# Altium integrated library Lattice CPLD ispMACH.IntLib: 663 symbols (part 17 of 48)
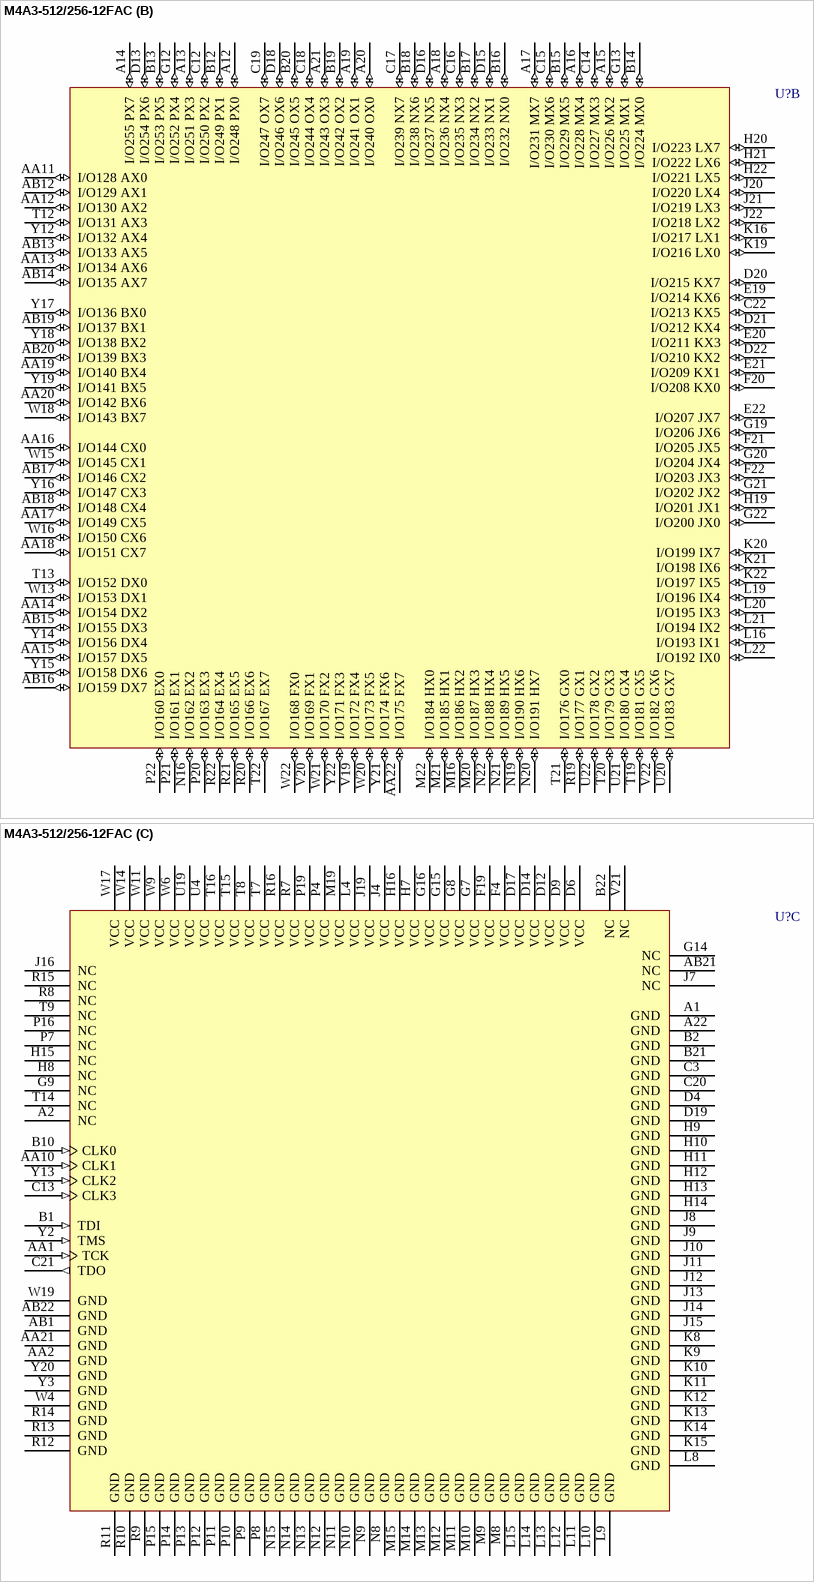
[diagram p322: symbol M4A3-512/256-12FAC]

## M4A3-512/256-12FAC
designator U?
High-Performance EE CMOS In-System Programmable Logic; Published: 17-Jul-2002; LatestRevisionDate: 13-Apr-2006; LatestRevisionNote: IPC-7351 Footprint Added.; DatasheetVersion: Feb-2001; PackageVersion: pkg_32, Aug-2005; PackageReference: fpBGA388; Publisher: Altium Limited; PackageDescription: 388-Ball Fine Pitch Ball Grid Array (fpBGA388); ComponentLink1Description: Manufacturer Link; ComponentLink1URL: http://www.latticesemi.com/products/mature/index.cfm; ComponentLink2Description: Datasheet; ComponentLink2URL: http://www.latticesemi.com/account/_download.cfm?AMID=1344
footprint fpBGA388 (BGA, 388-Leads, Body 23x23mm, Pitch 1mm)
3D model M4A3-fpBGA388 (388-Ball Fine Pitch Ball Grid Array (fpBGA388))
part A pins: A3 I/O10 B2 (io), A4 I/O8 B0 (io), A5 I/O22 C6 (io), A6 I/O17 C1 (io), A7 I/O30 D6 (io), A8 I/O27 D3 (io), A9 I/O6 A6 (io), A10 I/O5 A5 (io), A11 I/O0 A0 (io), AA3 I/O116 O4 (io), AA4 I/O113 O1 (io), AA5 I/O109 N5 (io), AA6 I/O108 N4 (io), AA7 I/O103 M7 (io), AA8 I/O100 M4 (io), AA9 I/O127 P7 (io), AB2 I/O117 O5 (io), AB3 I/O114 O2 (io), AB4 I/O112 O0 (io), AB5 I/O107 N3 (io), AB6 I/O105 N1 (io), AB7 I/O102 M6 (io), AB8 I/O97 M1 (io), AB9 I/O126 P6 (io), AB10 I/O124 P4 (io), AB11 I/O120 P0 (io), B3 I/O13 B5 (io), B4 I/O12 B4 (io), B5 I/O9 B1 (io), B6 I/O20 C4 (io), B7 I/O31 D7 (io), B8 I/O29 D5 (io), B9 I/O26 D2 (io), B11 I/O2 A2 (io), C1 I/O44 F4 (io), C2 I/O47 F7 (io), C4 I/O15 B7 (io), C5 I/O11 B3 (io), C6 I/O23 C7 (io), C7 I/O18 C2 (io), C8 I/O16 C0 (io), C9 I/O25 D1 (io), C10 I/O7 A7 (io), C11 I/O11 A1 (io), D1 I/O41 F1 (io), D2 I/O43 F3 (io), D3 I/O46 F6 (io), D5 I/O14 B6 (io), D7 I/O21 C5 (io), D8 I/O19 C3 (io), D10 I/O24 D0 (io), D11 I/O3 A3 (io), E1 I/O54 G6 (io), E2 I/O40 F0 (io), E3 I/O42 F2 (io), E4 I/O45 F5 (io), F1 I/O50 G2 (io), F2 I/O52 G4 (io), F3 I/O55 G7 (io), G1 I/O39 E7 (io), G2 I/O49 G1 (io), G3 I/O51 G3 (io), G4 I/O53 G5 (io), G10 I/O28 D4 (io), G11 I/O4 A4 (io), H1 I/O36 E4 (io), H2 I/O37 E5 (io), H3 I/O38 E6 (io), H4 I/O48 G0 (io), J1 I/O32 E0 (io), J2 I/O34 E2 (io), J3 I/O35 E3 (io), K1 I/O60 H4 (io), K2 I/O61 H5 (io), K3 I/O62 H6 (io), K4 I/O63 H7 (io), K7 I/O33 E1 (io), L1 I/O56 H0 (io), L2 I/O57 H1 (io), L3 I/O59 H3 (io), L7 I/O58 H2 (io), M1 I/O64 I0 (io), M2 I/O66 I2 (io), M3 I/O65 I1 (io), M4 I/O67 I3 (io), M7 I/O69 I5 (io), N1 I/O68 I4 (io), N2 I/O70 I6 (io), N3 I/O71 I7 (io), N4 I/O88 L0 (io), N7 I/O89 L1 (io), P1 I/O90 L2 (io), P2 I/O91 L3 (io), P3 I/O92 L4 (io), R1 I/O93 L5 (io), R2 I/O94 L6 (io), R3 I/O95 L7 (io), R4 I/O74 J2 (io), T1 I/O72 J0 (io), T2 I/O73 J1 (io), T3 I/O76 J4 (io), T4 I/O78 J6 (io), T10 I/O98 M2 (io), T11 I/O122 P2 (io), U1 I/O75 J3 (io), U2 I/O77 J5 (io), U3 I/O80 K0 (io), V1 I/O79 J7 (io), V2 I/O81 K1 (io), V3 I/O83 K3 (io), V4 I/O86 K6 (io), W1 I/O82 K2 (io), W2 I/O84 K4 (io), W3 I/O87 K7 (io), W5 I/O119 O7 (io), W7 I/O111 N7 (io), W8 I/O104 N0 (io), W10 I/O96 M0 (io), W12 I/O123 P3 (io), Y1 I/O85 K5 (io), Y4 I/O118 O6 (io), Y5 I/O115 O3 (io), Y6 I/O110 N6 (io), Y7 I/O106 N2 (io), Y8 I/O101 M5 (io), Y9 I/O99 M3 (io), Y10 I/O125 P5 (io), Y11 I/O121 P1 (io)
part B pins: A12 I/O248 PX0 (io), A13 I/O251 PX3 (io), A14 I/O255 PX7 (io), A15 I/O226 MX2 (io), A16 I/O228 MX4 (io), A17 I/O231 MX7 (io), A18 I/O236 NX4 (io), A19 I/O241 OX1 (io), A20 I/O240 OX0 (io), A21 I/O243 OX3 (io), AA11 I/O128 AX0 (io), AA12 I/O130 AX2 (io), AA13 I/O134 AX6 (io), AA14 I/O154 DX2 (io), AA15 I/O157 DX5 (io), AA16 I/O144 CX0 (io), AA17 I/O149 CX5 (io), AA18 I/O151 CX7 (io), AA19 I/O140 BX4 (io), AA20 I/O142 BX6 (io), AA22 I/O175 FX7 (io), AB12 I/O129 AX1 (io), AB13 I/O133 AX5 (io), AB14 I/O135 AX7 (io), AB15 I/O155 DX3 (io), AB16 I/O159 DX7 (io), AB17 I/O146 CX2 (io), AB18 I/O148 CX4 (io), AB19 I/O137 BX1 (io), AB20 I/O139 BX3 (io), B12 I/O249 PX1 (io), B13 I/O253 PX5 (io), B14 I/O224 MX0 (io), B15 I/O229 MX5 (io), B16 I/O232 NX0 (io), B17 I/O234 NX2 (io), B18 I/O238 NX6 (io), B19 I/O242 OX2 (io), B20 I/O245 OX5 (io), C12 I/O250 PX2 (io), C14 I/O227 MX3 (io), C15 I/O230 MX6 (io), C16 I/O235 NX3 (io), C17 I/O239 NX7 (io), C18 I/O244 OX4 (io), C19 I/O247 OX7 (io), C22 I/O213 KX5 (io), D13 I/O254 PX6 (io), D15 I/O233 NX1 (io), D16 I/O237 NX5 (io), D18 I/O246 OX6 (io), D20 I/O215 KX7 (io), D21 I/O212 KX4 (io), D22 I/O210 KX2 (io), E19 I/O214 KX6 (io), E20 I/O211 KX3 (io), E21 I/O209 KX1 (io), E22 I/O207 JX7 (io), F20 I/O208 KX0 (io), F21 I/O205 JX5 (io), F22 I/O203 JX3 (io), G12 I/O252 PX4 (io), G13 I/O225 MX1 (io), G19 I/O206 JX6 (io), G20 I/O204 JX4 (io), G21 I/O202 JX2 (io), G22 I/O200 JX0 (io), H19 I/O201 JX1 (io), H20 I/O223 LX7 (io), H21 I/O222 LX6 (io), H22 I/O221 LX5 (io), J20 I/O220 LX4 (io), J21 I/O219 LX3 (io), J22 I/O218 LX2 (io), K16 I/O217 LX1 (io), K19 I/O216 LX0 (io), K20 I/O199 IX7 (io), K21 I/O198 IX6 (io), K22 I/O197 IX5 (io), L16 I/O193 IX1 (io), L19 I/O196 IX4 (io), L20 I/O195 IX3 (io), L21 I/O194 IX2 (io), L22 I/O192 IX0 (io), M16 I/O186 HX2 (io), M20 I/O187 HX3 (io), M21 I/O185 HX1 (io), M22 I/O184 HX0 (io), N16 I/O162 EX2 (io), N19 I/O190 HX6 (io), N20 I/O191 HX7 (io), N21 I/O189 HX5 (io), N22 I/O188 HX4 (io), P20 I/O163 EX3 (io), P21 I/O161 EX1 (io), P22 I/O160 EX0 (io), R19 I/O177 GX1 (io), R20 I/O166 EX6 (io), R21 I/O165 EX5 (io), R22 I/O164 EX4 (io), T12 I/O131 AX3 (io), T13 I/O152 DX0 (io), T19 I/O181 GX5 (io), T20 I/O179 GX3 (io), T21 I/O176 GX0 (io), T22 I/O167 EX7 (io), U20 I/O183 GX7 (io), U21 I/O180 GX4 (io), U22 I/O178 GX2 (io), V19 I/O172 FX4 (io), V20 I/O169 FX1 (io), V22 I/O182 GX6 (io), W13 I/O153 DX1 (io), W15 I/O145 CX1 (io), W16 I/O150 CX6 (io), W18 I/O143 BX7 (io), W20 I/O173 FX5 (io), W21 I/O170 FX2 (io), W22 I/O168 FX0 (io), Y12 I/O132 AX4 (io), Y14 I/O156 DX4 (io), Y15 I/O158 DX6 (io), Y16 I/O147 CX3 (io), Y17 I/O136 BX0 (io), Y18 I/O138 BX2 (io), Y19 I/O141 BX5 (io), Y21 I/O174 FX6 (io), Y22 I/O171 FX3 (io)
part C pins: A1 GND (power), A2 NC, A22 GND (power), AA1 TCK (in), AA2 GND (power), AA10 CLK1 (in), AA21 GND (power), AB1 GND (power), AB21 NC, AB22 GND (power), B1 TDI (in), B2 GND (power), B10 CLK0 (in), B21 GND (power), B22 NC, C3 GND (power), C13 CLK3 (in), C20 GND (power), C21 TDO (out), D4 GND (power), D6 VCC (power), D9 VCC (power), D12 VCC (power), D14 VCC (power), D17 VCC (power), D19 GND (power), F4 VCC (power), F19 VCC (power), G7 VCC (power), G8 VCC (power), G9 NC, G14 NC, G15 VCC (power), G16 VCC (power), H7 VCC (power), H8 NC, H9 GND (power), H10 GND (power), H11 GND (power), H12 GND (power), H13 GND (power), H14 GND (power), H15 NC, H16 VCC (power), J4 VCC (power), J7 NC, J8 GND (power), J9 GND (power), J10 GND (power), J11 GND (power), J12 GND (power), J13 GND (power), J14 GND (power), J15 GND (power), J16 NC, J19 VCC (power), K8 GND (power), K9 GND (power), K10 GND (power), K11 GND (power), K12 GND (power), K13 GND (power), K14 GND (power), K15 GND (power), L4 VCC (power), L8 GND (power), L9 GND (power), L10 GND (power), L11 GND (power), L12 GND (power), L13 GND (power), L14 GND (power), L15 GND (power), M8 GND (power), M9 GND (power), M10 GND (power), M11 GND (power), M12 GND (power), M13 GND (power), M14 GND (power), M15 GND (power), M19 VCC (power), N8 GND (power), N9 GND (power), N10 GND (power), N11 GND (power), N12 GND (power), N13 GND (power), N14 GND (power), N15 GND (power), P4 VCC (power), P7 NC, P8 GND (power), P9 GND (power), P10 GND (power), P11 GND (power), P12 GND (power), P13 GND (power), P14 GND (power), P15 GND (power), P16 NC, P19 VCC (power), R7 VCC (power), R8 NC, R9 GND (power), R10 GND (power), R11 GND (power), R12 GND (power), R13 GND (power), R14 GND (power), R15 NC, R16 VCC (power), T7 VCC (power), T8 VCC (power), T9 NC, T14 NC, T15 VCC (power), T16 VCC (power), U4 VCC (power), U19 VCC (power), V21 NC, W4 GND (power), W6 VCC (power), W9 VCC (power), W11 VCC (power), W14 VCC (power), W17 VCC (power), W19 GND (power), Y2 TMS (in), Y3 GND (power), Y13 CLK2 (in), Y20 GND (power)

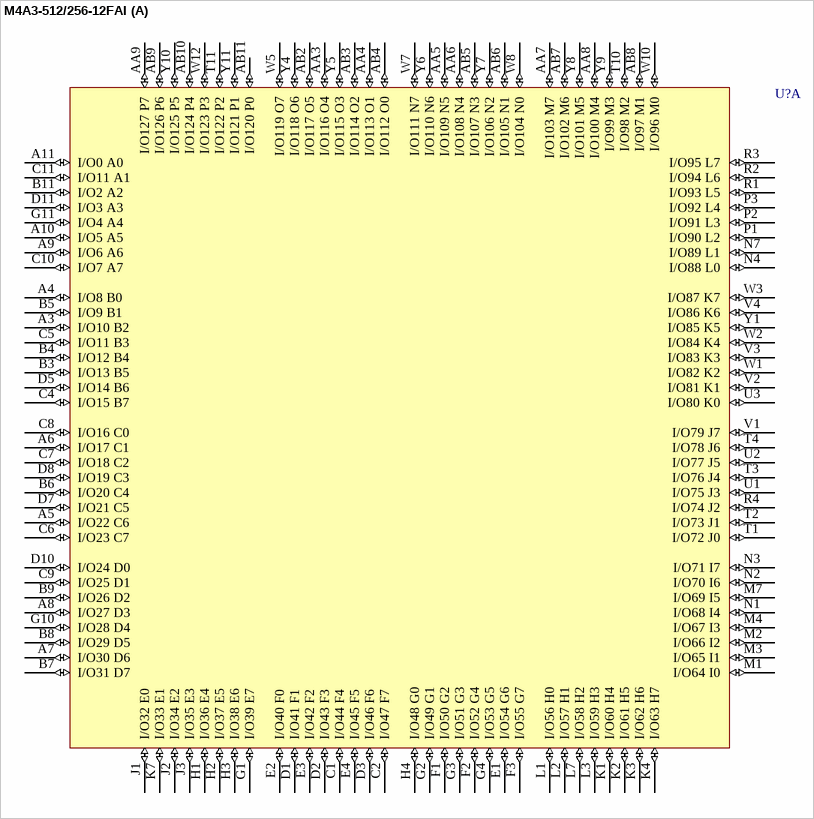
[diagram p104: symbol M4A3-512/256-12FAI]

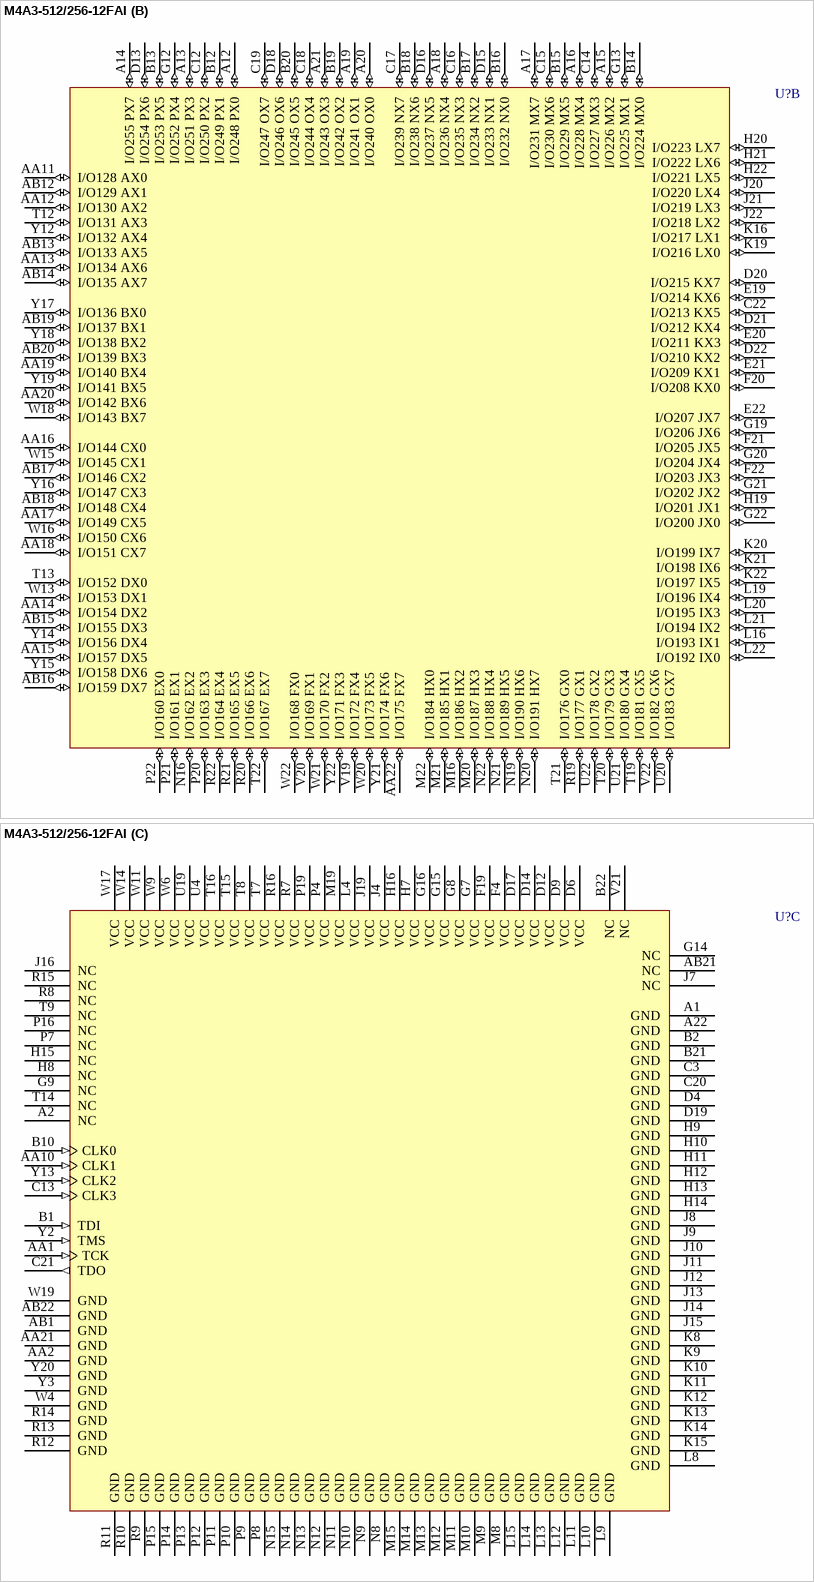
[diagram p105: symbol M4A3-512/256-12FAI]

## M4A3-512/256-12FAI
designator U?
High-Performance EE CMOS In-System Programmable Logic; Published: 17-Jul-2002; LatestRevisionDate: 13-Apr-2006; LatestRevisionNote: IPC-7351 Footprint Added.; DatasheetVersion: Feb-2001; PackageVersion: pkg_32, Aug-2005; PackageReference: fpBGA388; Publisher: Altium Limited; PackageDescription: 388-Ball Fine Pitch Ball Grid Array (fpBGA388); ComponentLink1Description: Manufacturer Link; ComponentLink1URL: http://www.latticesemi.com/products/mature/index.cfm; ComponentLink2Description: Datasheet; ComponentLink2URL: http://www.latticesemi.com/account/_download.cfm?AMID=1344
footprint fpBGA388 (BGA, 388-Leads, Body 23x23mm, Pitch 1mm)
3D model M4A3-fpBGA388 (388-Ball Fine Pitch Ball Grid Array (fpBGA388))
part A pins: A3 I/O10 B2 (io), A4 I/O8 B0 (io), A5 I/O22 C6 (io), A6 I/O17 C1 (io), A7 I/O30 D6 (io), A8 I/O27 D3 (io), A9 I/O6 A6 (io), A10 I/O5 A5 (io), A11 I/O0 A0 (io), AA3 I/O116 O4 (io), AA4 I/O113 O1 (io), AA5 I/O109 N5 (io), AA6 I/O108 N4 (io), AA7 I/O103 M7 (io), AA8 I/O100 M4 (io), AA9 I/O127 P7 (io), AB2 I/O117 O5 (io), AB3 I/O114 O2 (io), AB4 I/O112 O0 (io), AB5 I/O107 N3 (io), AB6 I/O105 N1 (io), AB7 I/O102 M6 (io), AB8 I/O97 M1 (io), AB9 I/O126 P6 (io), AB10 I/O124 P4 (io), AB11 I/O120 P0 (io), B3 I/O13 B5 (io), B4 I/O12 B4 (io), B5 I/O9 B1 (io), B6 I/O20 C4 (io), B7 I/O31 D7 (io), B8 I/O29 D5 (io), B9 I/O26 D2 (io), B11 I/O2 A2 (io), C1 I/O44 F4 (io), C2 I/O47 F7 (io), C4 I/O15 B7 (io), C5 I/O11 B3 (io), C6 I/O23 C7 (io), C7 I/O18 C2 (io), C8 I/O16 C0 (io), C9 I/O25 D1 (io), C10 I/O7 A7 (io), C11 I/O11 A1 (io), D1 I/O41 F1 (io), D2 I/O43 F3 (io), D3 I/O46 F6 (io), D5 I/O14 B6 (io), D7 I/O21 C5 (io), D8 I/O19 C3 (io), D10 I/O24 D0 (io), D11 I/O3 A3 (io), E1 I/O54 G6 (io), E2 I/O40 F0 (io), E3 I/O42 F2 (io), E4 I/O45 F5 (io), F1 I/O50 G2 (io), F2 I/O52 G4 (io), F3 I/O55 G7 (io), G1 I/O39 E7 (io), G2 I/O49 G1 (io), G3 I/O51 G3 (io), G4 I/O53 G5 (io), G10 I/O28 D4 (io), G11 I/O4 A4 (io), H1 I/O36 E4 (io), H2 I/O37 E5 (io), H3 I/O38 E6 (io), H4 I/O48 G0 (io), J1 I/O32 E0 (io), J2 I/O34 E2 (io), J3 I/O35 E3 (io), K1 I/O60 H4 (io), K2 I/O61 H5 (io), K3 I/O62 H6 (io), K4 I/O63 H7 (io), K7 I/O33 E1 (io), L1 I/O56 H0 (io), L2 I/O57 H1 (io), L3 I/O59 H3 (io), L7 I/O58 H2 (io), M1 I/O64 I0 (io), M2 I/O66 I2 (io), M3 I/O65 I1 (io), M4 I/O67 I3 (io), M7 I/O69 I5 (io), N1 I/O68 I4 (io), N2 I/O70 I6 (io), N3 I/O71 I7 (io), N4 I/O88 L0 (io), N7 I/O89 L1 (io), P1 I/O90 L2 (io), P2 I/O91 L3 (io), P3 I/O92 L4 (io), R1 I/O93 L5 (io), R2 I/O94 L6 (io), R3 I/O95 L7 (io), R4 I/O74 J2 (io), T1 I/O72 J0 (io), T2 I/O73 J1 (io), T3 I/O76 J4 (io), T4 I/O78 J6 (io), T10 I/O98 M2 (io), T11 I/O122 P2 (io), U1 I/O75 J3 (io), U2 I/O77 J5 (io), U3 I/O80 K0 (io), V1 I/O79 J7 (io), V2 I/O81 K1 (io), V3 I/O83 K3 (io), V4 I/O86 K6 (io), W1 I/O82 K2 (io), W2 I/O84 K4 (io), W3 I/O87 K7 (io), W5 I/O119 O7 (io), W7 I/O111 N7 (io), W8 I/O104 N0 (io), W10 I/O96 M0 (io), W12 I/O123 P3 (io), Y1 I/O85 K5 (io), Y4 I/O118 O6 (io), Y5 I/O115 O3 (io), Y6 I/O110 N6 (io), Y7 I/O106 N2 (io), Y8 I/O101 M5 (io), Y9 I/O99 M3 (io), Y10 I/O125 P5 (io), Y11 I/O121 P1 (io)
part B pins: A12 I/O248 PX0 (io), A13 I/O251 PX3 (io), A14 I/O255 PX7 (io), A15 I/O226 MX2 (io), A16 I/O228 MX4 (io), A17 I/O231 MX7 (io), A18 I/O236 NX4 (io), A19 I/O241 OX1 (io), A20 I/O240 OX0 (io), A21 I/O243 OX3 (io), AA11 I/O128 AX0 (io), AA12 I/O130 AX2 (io), AA13 I/O134 AX6 (io), AA14 I/O154 DX2 (io), AA15 I/O157 DX5 (io), AA16 I/O144 CX0 (io), AA17 I/O149 CX5 (io), AA18 I/O151 CX7 (io), AA19 I/O140 BX4 (io), AA20 I/O142 BX6 (io), AA22 I/O175 FX7 (io), AB12 I/O129 AX1 (io), AB13 I/O133 AX5 (io), AB14 I/O135 AX7 (io), AB15 I/O155 DX3 (io), AB16 I/O159 DX7 (io), AB17 I/O146 CX2 (io), AB18 I/O148 CX4 (io), AB19 I/O137 BX1 (io), AB20 I/O139 BX3 (io), B12 I/O249 PX1 (io), B13 I/O253 PX5 (io), B14 I/O224 MX0 (io), B15 I/O229 MX5 (io), B16 I/O232 NX0 (io), B17 I/O234 NX2 (io), B18 I/O238 NX6 (io), B19 I/O242 OX2 (io), B20 I/O245 OX5 (io), C12 I/O250 PX2 (io), C14 I/O227 MX3 (io), C15 I/O230 MX6 (io), C16 I/O235 NX3 (io), C17 I/O239 NX7 (io), C18 I/O244 OX4 (io), C19 I/O247 OX7 (io), C22 I/O213 KX5 (io), D13 I/O254 PX6 (io), D15 I/O233 NX1 (io), D16 I/O237 NX5 (io), D18 I/O246 OX6 (io), D20 I/O215 KX7 (io), D21 I/O212 KX4 (io), D22 I/O210 KX2 (io), E19 I/O214 KX6 (io), E20 I/O211 KX3 (io), E21 I/O209 KX1 (io), E22 I/O207 JX7 (io), F20 I/O208 KX0 (io), F21 I/O205 JX5 (io), F22 I/O203 JX3 (io), G12 I/O252 PX4 (io), G13 I/O225 MX1 (io), G19 I/O206 JX6 (io), G20 I/O204 JX4 (io), G21 I/O202 JX2 (io), G22 I/O200 JX0 (io), H19 I/O201 JX1 (io), H20 I/O223 LX7 (io), H21 I/O222 LX6 (io), H22 I/O221 LX5 (io), J20 I/O220 LX4 (io), J21 I/O219 LX3 (io), J22 I/O218 LX2 (io), K16 I/O217 LX1 (io), K19 I/O216 LX0 (io), K20 I/O199 IX7 (io), K21 I/O198 IX6 (io), K22 I/O197 IX5 (io), L16 I/O193 IX1 (io), L19 I/O196 IX4 (io), L20 I/O195 IX3 (io), L21 I/O194 IX2 (io), L22 I/O192 IX0 (io), M16 I/O186 HX2 (io), M20 I/O187 HX3 (io), M21 I/O185 HX1 (io), M22 I/O184 HX0 (io), N16 I/O162 EX2 (io), N19 I/O190 HX6 (io), N20 I/O191 HX7 (io), N21 I/O189 HX5 (io), N22 I/O188 HX4 (io), P20 I/O163 EX3 (io), P21 I/O161 EX1 (io), P22 I/O160 EX0 (io), R19 I/O177 GX1 (io), R20 I/O166 EX6 (io), R21 I/O165 EX5 (io), R22 I/O164 EX4 (io), T12 I/O131 AX3 (io), T13 I/O152 DX0 (io), T19 I/O181 GX5 (io), T20 I/O179 GX3 (io), T21 I/O176 GX0 (io), T22 I/O167 EX7 (io), U20 I/O183 GX7 (io), U21 I/O180 GX4 (io), U22 I/O178 GX2 (io), V19 I/O172 FX4 (io), V20 I/O169 FX1 (io), V22 I/O182 GX6 (io), W13 I/O153 DX1 (io), W15 I/O145 CX1 (io), W16 I/O150 CX6 (io), W18 I/O143 BX7 (io), W20 I/O173 FX5 (io), W21 I/O170 FX2 (io), W22 I/O168 FX0 (io), Y12 I/O132 AX4 (io), Y14 I/O156 DX4 (io), Y15 I/O158 DX6 (io), Y16 I/O147 CX3 (io), Y17 I/O136 BX0 (io), Y18 I/O138 BX2 (io), Y19 I/O141 BX5 (io), Y21 I/O174 FX6 (io), Y22 I/O171 FX3 (io)
part C pins: A1 GND (power), A2 NC, A22 GND (power), AA1 TCK (in), AA2 GND (power), AA10 CLK1 (in), AA21 GND (power), AB1 GND (power), AB21 NC, AB22 GND (power), B1 TDI (in), B2 GND (power), B10 CLK0 (in), B21 GND (power), B22 NC, C3 GND (power), C13 CLK3 (in), C20 GND (power), C21 TDO (out), D4 GND (power), D6 VCC (power), D9 VCC (power), D12 VCC (power), D14 VCC (power), D17 VCC (power), D19 GND (power), F4 VCC (power), F19 VCC (power), G7 VCC (power), G8 VCC (power), G9 NC, G14 NC, G15 VCC (power), G16 VCC (power), H7 VCC (power), H8 NC, H9 GND (power), H10 GND (power), H11 GND (power), H12 GND (power), H13 GND (power), H14 GND (power), H15 NC, H16 VCC (power), J4 VCC (power), J7 NC, J8 GND (power), J9 GND (power), J10 GND (power), J11 GND (power), J12 GND (power), J13 GND (power), J14 GND (power), J15 GND (power), J16 NC, J19 VCC (power), K8 GND (power), K9 GND (power), K10 GND (power), K11 GND (power), K12 GND (power), K13 GND (power), K14 GND (power), K15 GND (power), L4 VCC (power), L8 GND (power), L9 GND (power), L10 GND (power), L11 GND (power), L12 GND (power), L13 GND (power), L14 GND (power), L15 GND (power), M8 GND (power), M9 GND (power), M10 GND (power), M11 GND (power), M12 GND (power), M13 GND (power), M14 GND (power), M15 GND (power), M19 VCC (power), N8 GND (power), N9 GND (power), N10 GND (power), N11 GND (power), N12 GND (power), N13 GND (power), N14 GND (power), N15 GND (power), P4 VCC (power), P7 NC, P8 GND (power), P9 GND (power), P10 GND (power), P11 GND (power), P12 GND (power), P13 GND (power), P14 GND (power), P15 GND (power), P16 NC, P19 VCC (power), R7 VCC (power), R8 NC, R9 GND (power), R10 GND (power), R11 GND (power), R12 GND (power), R13 GND (power), R14 GND (power), R15 NC, R16 VCC (power), T7 VCC (power), T8 VCC (power), T9 NC, T14 NC, T15 VCC (power), T16 VCC (power), U4 VCC (power), U19 VCC (power), V21 NC, W4 GND (power), W6 VCC (power), W9 VCC (power), W11 VCC (power), W14 VCC (power), W17 VCC (power), W19 GND (power), Y2 TMS (in), Y3 GND (power), Y13 CLK2 (in), Y20 GND (power)

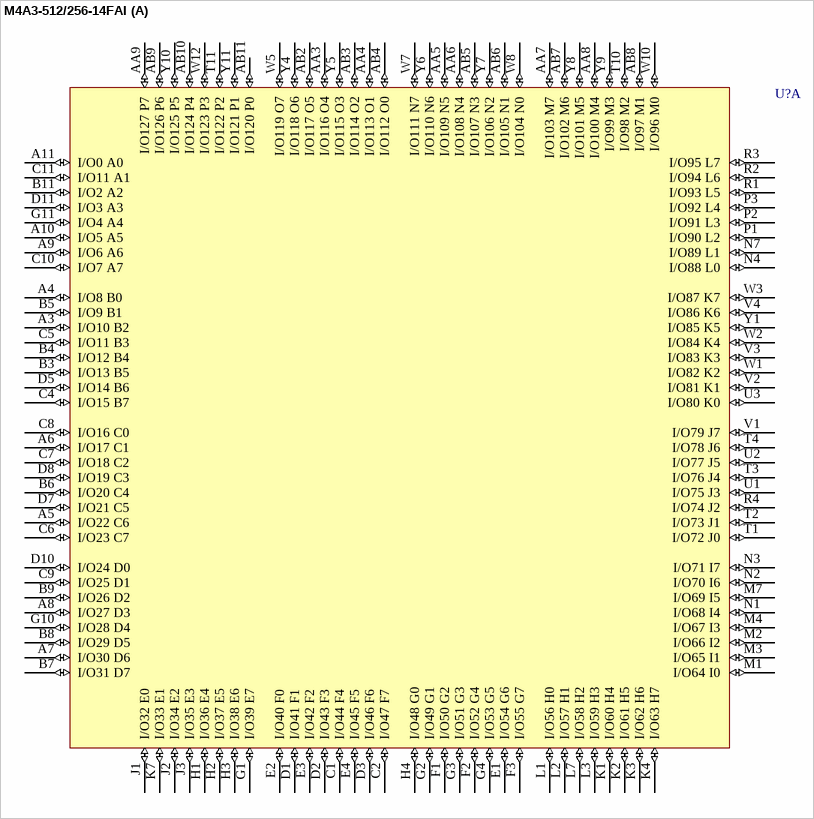
[diagram p106: symbol M4A3-512/256-14FAI]

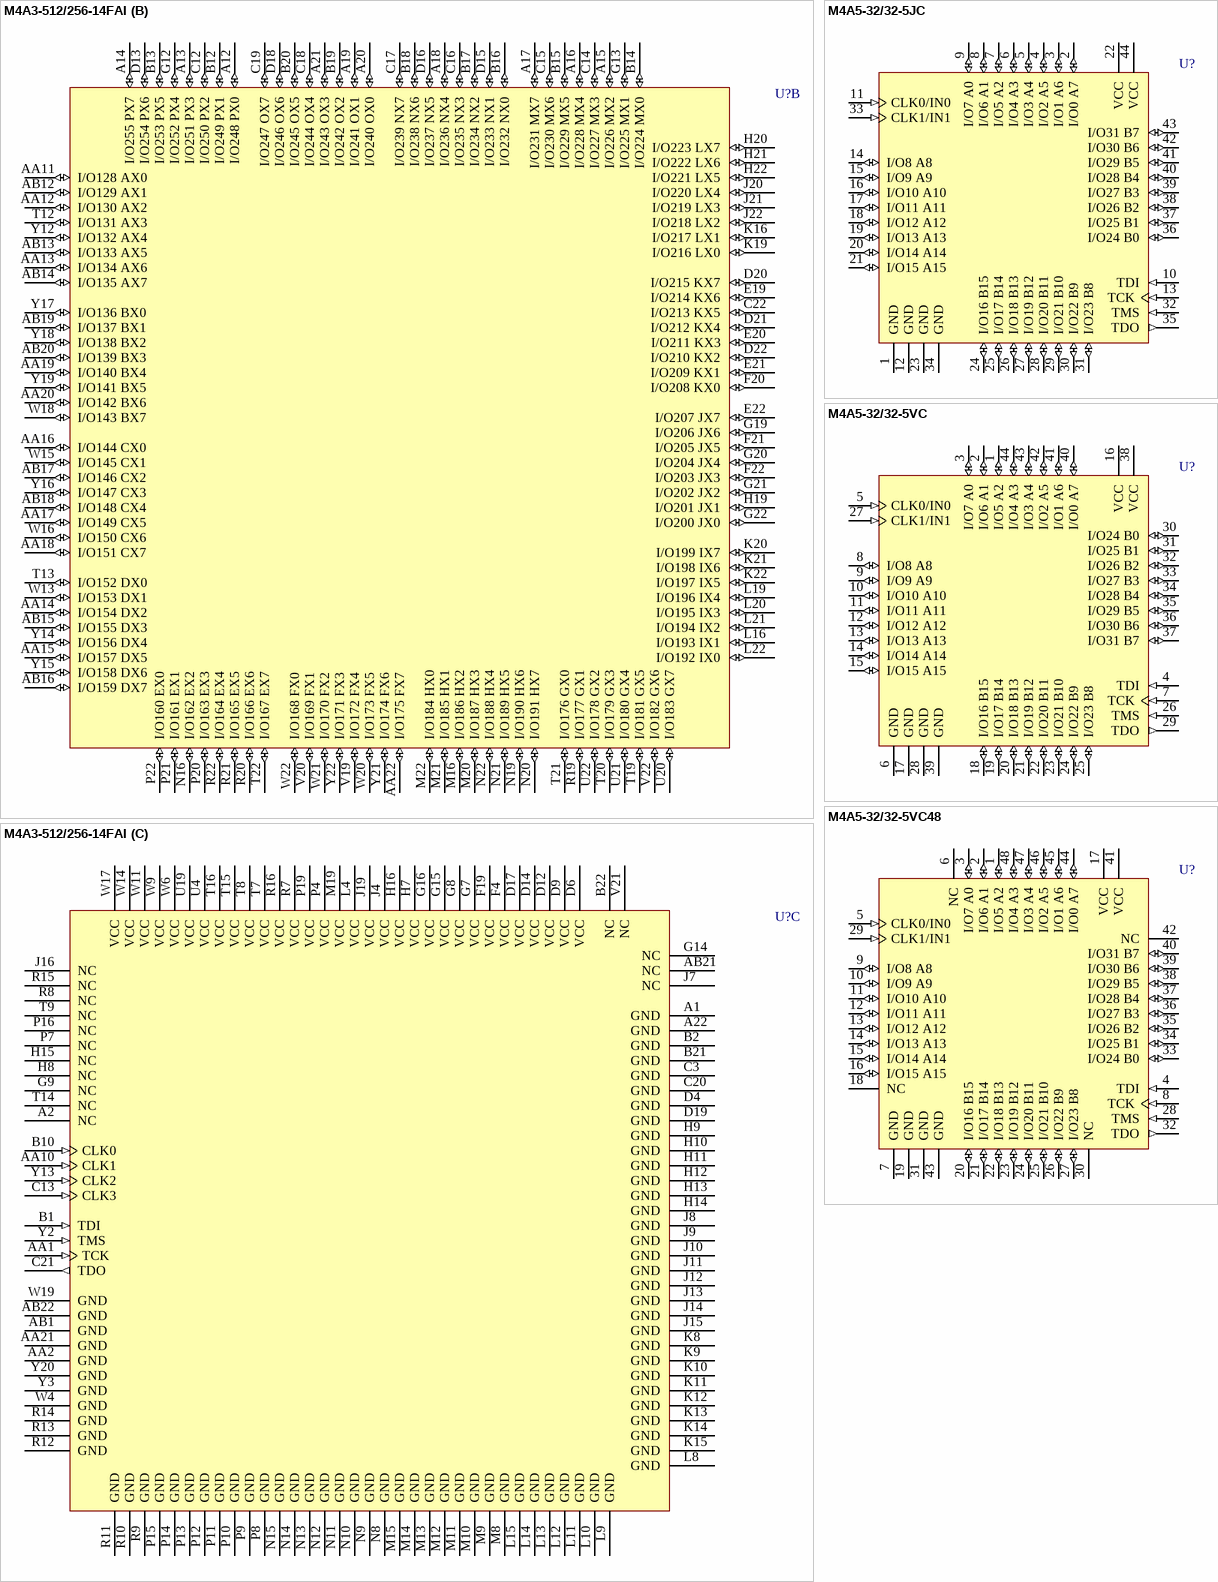
[diagram p107: symbols M4A3-512/256-14FAI to M4A5-32/32-5VC48]

## M4A3-512/256-14FAI
designator U?
High-Performance EE CMOS In-System Programmable Logic; Published: 17-Jul-2002; LatestRevisionDate: 13-Apr-2006; LatestRevisionNote: IPC-7351 Footprint Added.; DatasheetVersion: Feb-2001; PackageVersion: pkg_32, Aug-2005; PackageReference: fpBGA388; Publisher: Altium Limited; PackageDescription: 388-Ball Fine Pitch Ball Grid Array (fpBGA388); ComponentLink1Description: Manufacturer Link; ComponentLink1URL: http://www.latticesemi.com/products/mature/index.cfm; ComponentLink2Description: Datasheet; ComponentLink2URL: http://www.latticesemi.com/account/_download.cfm?AMID=1344
footprint fpBGA388 (BGA, 388-Leads, Body 23x23mm, Pitch 1mm)
3D model M4A3-fpBGA388 (388-Ball Fine Pitch Ball Grid Array (fpBGA388))
part A pins: A3 I/O10 B2 (io), A4 I/O8 B0 (io), A5 I/O22 C6 (io), A6 I/O17 C1 (io), A7 I/O30 D6 (io), A8 I/O27 D3 (io), A9 I/O6 A6 (io), A10 I/O5 A5 (io), A11 I/O0 A0 (io), AA3 I/O116 O4 (io), AA4 I/O113 O1 (io), AA5 I/O109 N5 (io), AA6 I/O108 N4 (io), AA7 I/O103 M7 (io), AA8 I/O100 M4 (io), AA9 I/O127 P7 (io), AB2 I/O117 O5 (io), AB3 I/O114 O2 (io), AB4 I/O112 O0 (io), AB5 I/O107 N3 (io), AB6 I/O105 N1 (io), AB7 I/O102 M6 (io), AB8 I/O97 M1 (io), AB9 I/O126 P6 (io), AB10 I/O124 P4 (io), AB11 I/O120 P0 (io), B3 I/O13 B5 (io), B4 I/O12 B4 (io), B5 I/O9 B1 (io), B6 I/O20 C4 (io), B7 I/O31 D7 (io), B8 I/O29 D5 (io), B9 I/O26 D2 (io), B11 I/O2 A2 (io), C1 I/O44 F4 (io), C2 I/O47 F7 (io), C4 I/O15 B7 (io), C5 I/O11 B3 (io), C6 I/O23 C7 (io), C7 I/O18 C2 (io), C8 I/O16 C0 (io), C9 I/O25 D1 (io), C10 I/O7 A7 (io), C11 I/O11 A1 (io), D1 I/O41 F1 (io), D2 I/O43 F3 (io), D3 I/O46 F6 (io), D5 I/O14 B6 (io), D7 I/O21 C5 (io), D8 I/O19 C3 (io), D10 I/O24 D0 (io), D11 I/O3 A3 (io), E1 I/O54 G6 (io), E2 I/O40 F0 (io), E3 I/O42 F2 (io), E4 I/O45 F5 (io), F1 I/O50 G2 (io), F2 I/O52 G4 (io), F3 I/O55 G7 (io), G1 I/O39 E7 (io), G2 I/O49 G1 (io), G3 I/O51 G3 (io), G4 I/O53 G5 (io), G10 I/O28 D4 (io), G11 I/O4 A4 (io), H1 I/O36 E4 (io), H2 I/O37 E5 (io), H3 I/O38 E6 (io), H4 I/O48 G0 (io), J1 I/O32 E0 (io), J2 I/O34 E2 (io), J3 I/O35 E3 (io), K1 I/O60 H4 (io), K2 I/O61 H5 (io), K3 I/O62 H6 (io), K4 I/O63 H7 (io), K7 I/O33 E1 (io), L1 I/O56 H0 (io), L2 I/O57 H1 (io), L3 I/O59 H3 (io), L7 I/O58 H2 (io), M1 I/O64 I0 (io), M2 I/O66 I2 (io), M3 I/O65 I1 (io), M4 I/O67 I3 (io), M7 I/O69 I5 (io), N1 I/O68 I4 (io), N2 I/O70 I6 (io), N3 I/O71 I7 (io), N4 I/O88 L0 (io), N7 I/O89 L1 (io), P1 I/O90 L2 (io), P2 I/O91 L3 (io), P3 I/O92 L4 (io), R1 I/O93 L5 (io), R2 I/O94 L6 (io), R3 I/O95 L7 (io), R4 I/O74 J2 (io), T1 I/O72 J0 (io), T2 I/O73 J1 (io), T3 I/O76 J4 (io), T4 I/O78 J6 (io), T10 I/O98 M2 (io), T11 I/O122 P2 (io), U1 I/O75 J3 (io), U2 I/O77 J5 (io), U3 I/O80 K0 (io), V1 I/O79 J7 (io), V2 I/O81 K1 (io), V3 I/O83 K3 (io), V4 I/O86 K6 (io), W1 I/O82 K2 (io), W2 I/O84 K4 (io), W3 I/O87 K7 (io), W5 I/O119 O7 (io), W7 I/O111 N7 (io), W8 I/O104 N0 (io), W10 I/O96 M0 (io), W12 I/O123 P3 (io), Y1 I/O85 K5 (io), Y4 I/O118 O6 (io), Y5 I/O115 O3 (io), Y6 I/O110 N6 (io), Y7 I/O106 N2 (io), Y8 I/O101 M5 (io), Y9 I/O99 M3 (io), Y10 I/O125 P5 (io), Y11 I/O121 P1 (io)
part B pins: A12 I/O248 PX0 (io), A13 I/O251 PX3 (io), A14 I/O255 PX7 (io), A15 I/O226 MX2 (io), A16 I/O228 MX4 (io), A17 I/O231 MX7 (io), A18 I/O236 NX4 (io), A19 I/O241 OX1 (io), A20 I/O240 OX0 (io), A21 I/O243 OX3 (io), AA11 I/O128 AX0 (io), AA12 I/O130 AX2 (io), AA13 I/O134 AX6 (io), AA14 I/O154 DX2 (io), AA15 I/O157 DX5 (io), AA16 I/O144 CX0 (io), AA17 I/O149 CX5 (io), AA18 I/O151 CX7 (io), AA19 I/O140 BX4 (io), AA20 I/O142 BX6 (io), AA22 I/O175 FX7 (io), AB12 I/O129 AX1 (io), AB13 I/O133 AX5 (io), AB14 I/O135 AX7 (io), AB15 I/O155 DX3 (io), AB16 I/O159 DX7 (io), AB17 I/O146 CX2 (io), AB18 I/O148 CX4 (io), AB19 I/O137 BX1 (io), AB20 I/O139 BX3 (io), B12 I/O249 PX1 (io), B13 I/O253 PX5 (io), B14 I/O224 MX0 (io), B15 I/O229 MX5 (io), B16 I/O232 NX0 (io), B17 I/O234 NX2 (io), B18 I/O238 NX6 (io), B19 I/O242 OX2 (io), B20 I/O245 OX5 (io), C12 I/O250 PX2 (io), C14 I/O227 MX3 (io), C15 I/O230 MX6 (io), C16 I/O235 NX3 (io), C17 I/O239 NX7 (io), C18 I/O244 OX4 (io), C19 I/O247 OX7 (io), C22 I/O213 KX5 (io), D13 I/O254 PX6 (io), D15 I/O233 NX1 (io), D16 I/O237 NX5 (io), D18 I/O246 OX6 (io), D20 I/O215 KX7 (io), D21 I/O212 KX4 (io), D22 I/O210 KX2 (io), E19 I/O214 KX6 (io), E20 I/O211 KX3 (io), E21 I/O209 KX1 (io), E22 I/O207 JX7 (io), F20 I/O208 KX0 (io), F21 I/O205 JX5 (io), F22 I/O203 JX3 (io), G12 I/O252 PX4 (io), G13 I/O225 MX1 (io), G19 I/O206 JX6 (io), G20 I/O204 JX4 (io), G21 I/O202 JX2 (io), G22 I/O200 JX0 (io), H19 I/O201 JX1 (io), H20 I/O223 LX7 (io), H21 I/O222 LX6 (io), H22 I/O221 LX5 (io), J20 I/O220 LX4 (io), J21 I/O219 LX3 (io), J22 I/O218 LX2 (io), K16 I/O217 LX1 (io), K19 I/O216 LX0 (io), K20 I/O199 IX7 (io), K21 I/O198 IX6 (io), K22 I/O197 IX5 (io), L16 I/O193 IX1 (io), L19 I/O196 IX4 (io), L20 I/O195 IX3 (io), L21 I/O194 IX2 (io), L22 I/O192 IX0 (io), M16 I/O186 HX2 (io), M20 I/O187 HX3 (io), M21 I/O185 HX1 (io), M22 I/O184 HX0 (io), N16 I/O162 EX2 (io), N19 I/O190 HX6 (io), N20 I/O191 HX7 (io), N21 I/O189 HX5 (io), N22 I/O188 HX4 (io), P20 I/O163 EX3 (io), P21 I/O161 EX1 (io), P22 I/O160 EX0 (io), R19 I/O177 GX1 (io), R20 I/O166 EX6 (io), R21 I/O165 EX5 (io), R22 I/O164 EX4 (io), T12 I/O131 AX3 (io), T13 I/O152 DX0 (io), T19 I/O181 GX5 (io), T20 I/O179 GX3 (io), T21 I/O176 GX0 (io), T22 I/O167 EX7 (io), U20 I/O183 GX7 (io), U21 I/O180 GX4 (io), U22 I/O178 GX2 (io), V19 I/O172 FX4 (io), V20 I/O169 FX1 (io), V22 I/O182 GX6 (io), W13 I/O153 DX1 (io), W15 I/O145 CX1 (io), W16 I/O150 CX6 (io), W18 I/O143 BX7 (io), W20 I/O173 FX5 (io), W21 I/O170 FX2 (io), W22 I/O168 FX0 (io), Y12 I/O132 AX4 (io), Y14 I/O156 DX4 (io), Y15 I/O158 DX6 (io), Y16 I/O147 CX3 (io), Y17 I/O136 BX0 (io), Y18 I/O138 BX2 (io), Y19 I/O141 BX5 (io), Y21 I/O174 FX6 (io), Y22 I/O171 FX3 (io)
part C pins: A1 GND (power), A2 NC, A22 GND (power), AA1 TCK (in), AA2 GND (power), AA10 CLK1 (in), AA21 GND (power), AB1 GND (power), AB21 NC, AB22 GND (power), B1 TDI (in), B2 GND (power), B10 CLK0 (in), B21 GND (power), B22 NC, C3 GND (power), C13 CLK3 (in), C20 GND (power), C21 TDO (out), D4 GND (power), D6 VCC (power), D9 VCC (power), D12 VCC (power), D14 VCC (power), D17 VCC (power), D19 GND (power), F4 VCC (power), F19 VCC (power), G7 VCC (power), G8 VCC (power), G9 NC, G14 NC, G15 VCC (power), G16 VCC (power), H7 VCC (power), H8 NC, H9 GND (power), H10 GND (power), H11 GND (power), H12 GND (power), H13 GND (power), H14 GND (power), H15 NC, H16 VCC (power), J4 VCC (power), J7 NC, J8 GND (power), J9 GND (power), J10 GND (power), J11 GND (power), J12 GND (power), J13 GND (power), J14 GND (power), J15 GND (power), J16 NC, J19 VCC (power), K8 GND (power), K9 GND (power), K10 GND (power), K11 GND (power), K12 GND (power), K13 GND (power), K14 GND (power), K15 GND (power), L4 VCC (power), L8 GND (power), L9 GND (power), L10 GND (power), L11 GND (power), L12 GND (power), L13 GND (power), L14 GND (power), L15 GND (power), M8 GND (power), M9 GND (power), M10 GND (power), M11 GND (power), M12 GND (power), M13 GND (power), M14 GND (power), M15 GND (power), M19 VCC (power), N8 GND (power), N9 GND (power), N10 GND (power), N11 GND (power), N12 GND (power), N13 GND (power), N14 GND (power), N15 GND (power), P4 VCC (power), P7 NC, P8 GND (power), P9 GND (power), P10 GND (power), P11 GND (power), P12 GND (power), P13 GND (power), P14 GND (power), P15 GND (power), P16 NC, P19 VCC (power), R7 VCC (power), R8 NC, R9 GND (power), R10 GND (power), R11 GND (power), R12 GND (power), R13 GND (power), R14 GND (power), R15 NC, R16 VCC (power), T7 VCC (power), T8 VCC (power), T9 NC, T14 NC, T15 VCC (power), T16 VCC (power), U4 VCC (power), U19 VCC (power), V21 NC, W4 GND (power), W6 VCC (power), W9 VCC (power), W11 VCC (power), W14 VCC (power), W17 VCC (power), W19 GND (power), Y2 TMS (in), Y3 GND (power), Y13 CLK2 (in), Y20 GND (power)

## M4A5-32/32-5JC
designator U?
High-Performance EE CMOS In-System Programmable Logic; Published: 17-Jul-2002; LatestRevisionDate: 13-Apr-2006; LatestRevisionNote: IPC-7351 Footprint Added.; DatasheetVersion: Feb-2001; PackageVersion: pkg_32, Aug-2005; PackageReference: PLCC44; Publisher: Altium Limited; PackageDescription: 44-Pin Leaded Chip Carrier 1.27 mm Pitch; Code_IPC: PLCC-44; ComponentLink1Description: Manufacturer Link; ComponentLink1URL: http://www.latticesemi.com/products/mature/index.cfm; ComponentLink2Description: Datasheet; ComponentLink2URL: http://www.latticesemi.com/account/_download.cfm?AMID=1344
footprint PLCC44_N (Leaded Chip Carrier, 44-Leads, Body 16.6x16.6mm, Pitch 1.27mm, IPC Medium Density)
footprint PLCC44_L (Leaded Chip Carrier, 44-Leads, Body 16.6x16.6mm, Pitch 1.27mm, IPC High Density)
footprint PLCC44_M (Leaded Chip Carrier, 44-Leads, Body 16.6x16.6mm, Pitch 1.27mm, IPC Low Density)
3D model M4A5-PLCC44 (44-Pin Leaded Chip Carrier 1.27 mm Pitch)
pins: 1 GND (power), 2 I/O0 A7 (io), 3 I/O1 A6 (io), 4 I/O2 A5 (io), 5 I/O3 A4 (io), 6 I/O4 A3 (io), 7 I/O5 A2 (io), 8 I/O6 A1 (io), 9 I/O7 A0 (io), 10 TDI (in), 11 CLK0/IN0 (in), 12 GND (power), 13 TCK (in), 14 I/O8 A8 (io), 15 I/O9 A9 (io), 16 I/O10 A10 (io), 17 I/O11 A11 (io), 18 I/O12 A12 (io), 19 I/O13 A13 (io), 20 I/O14 A14 (io), 21 I/O15 A15 (io), 22 VCC (power), 23 GND (power), 24 I/O16 B15 (io), 25 I/O17 B14 (io), 26 I/O18 B13 (io), 27 I/O19 B12 (io), 28 I/O20 B11 (io), 29 I/O21 B10 (io), 30 I/O22 B9 (io), 31 I/O23 B8 (io), 32 TMS (in), 33 CLK1/IN1 (in), 34 GND (power), 35 TDO (out), 36 I/O24 B0 (io), 37 I/O25 B1 (io), 38 I/O26 B2 (io), 39 I/O27 B3 (io), 40 I/O28 B4 (io), 41 I/O29 B5 (io), 42 I/O30 B6 (io), 43 I/O31 B7 (io), 44 VCC (power)

## M4A5-32/32-5VC
designator U?
High-Performance EE CMOS In-System Programmable Logic; Published: 17-Jul-2002; LatestRevisionDate: 13-Apr-2006; LatestRevisionNote: IPC-7351 Footprint Added.; DatasheetVersion: Feb-2001; PackageVersion: pkg_32, Aug-2005; PackageReference: TQFP44; Publisher: Altium Limited; PackageDescription: 44-Pin Thin Quad Flat Pack 0.8 mm Pitch; ComponentLink1Description: Manufacturer Link; ComponentLink1URL: http://www.latticesemi.com/products/mature/index.cfm; ComponentLink2Description: Datasheet; ComponentLink2URL: http://www.latticesemi.com/account/_download.cfm?AMID=1344
footprint TQFP44_N (Thin QFP, 44-Leads, Body 10x10mm, Pitch 0.8mm, IPC Medium Density)
footprint TQFP44_L (Thin QFP, 44-Leads, Body 10x10mm, Pitch 0.8mm, IPC High Density)
footprint TQFP44_M (Thin QFP, 44-Leads, Body 10x10mm, Pitch 0.8mm, IPC Low Density)
3D model M4A5-TQFP44 (44-Pin Thin Quad Flat Pack 0.8 mm Pitch)
pins: 1 I/O5 A2 (io), 2 I/O6 A1 (io), 3 I/O7 A0 (io), 4 TDI (in), 5 CLK0/IN0 (in), 6 GND (power), 7 TCK (in), 8 I/O8 A8 (io), 9 I/O9 A9 (io), 10 I/O10 A10 (io), 11 I/O11 A11 (io), 12 I/O12 A12 (io), 13 I/O13 A13 (io), 14 I/O14 A14 (io), 15 I/O15 A15 (io), 16 VCC (power), 17 GND (power), 18 I/O16 B15 (io), 19 I/O17 B14 (io), 20 I/O18 B13 (io), 21 I/O19 B12 (io), 22 I/O20 B11 (io), 23 I/O21 B10 (io), 24 I/O22 B9 (io), 25 I/O23 B8 (io), 26 TMS (in), 27 CLK1/IN1 (in), 28 GND (power), 29 TDO (out), 30 I/O24 B0 (io), 31 I/O25 B1 (io), 32 I/O26 B2 (io), 33 I/O27 B3 (io), 34 I/O28 B4 (io), 35 I/O29 B5 (io), 36 I/O30 B6 (io), 37 I/O31 B7 (io), 38 VCC (power), 39 GND (power), 40 I/O0 A7 (io), 41 I/O1 A6 (io), 42 I/O2 A5 (io), 43 I/O3 A4 (io), 44 I/O4 A3 (io)

## M4A5-32/32-5VC48
designator U?
High-Performance EE CMOS In-System Programmable Logic; Published: 17-Jul-2002; LatestRevisionDate: 13-Apr-2006; LatestRevisionNote: IPC-7351 Footprint Added.; DatasheetVersion: Feb-2001; PackageVersion: pkg_32, Aug-2005; PackageReference: TQFP48; Publisher: Altium Limited; PackageDescription: 48-Pin Thin Quad Flat Pack 0.5 mm Pitch; ComponentLink1Description: Manufacturer Link; ComponentLink1URL: http://www.latticesemi.com/products/mature/index.cfm; ComponentLink2Description: Datasheet; ComponentLink2URL: http://www.latticesemi.com/account/_download.cfm?AMID=1344
footprint TQFP48_N (Thin QFP, 48-Leads, Body 7x7mm, Pitch 0.5mm, IPC Medium Density)
footprint TQFP48_L (Thin QFP, 48-Leads, Body 7x7mm, Pitch 0.5mm, IPC High Density)
footprint TQFP48_M (Thin QFP, 48-Leads, Body 7x7mm, Pitch 0.5mm, IPC Low Density)
3D model M4A5-TQFP48 (48-Pin Thin Quad Flat Pack 0.5 mm Pitch)
pins: 1 I/O5 A2 (io), 2 I/O6 A1 (io), 3 I/O7 A0 (io), 4 TDI (in), 5 CLK0/IN0 (in), 6 NC, 7 GND (power), 8 TCK (in), 9 I/O8 A8 (io), 10 I/O9 A9 (io), 11 I/O10 A10 (io), 12 I/O11 A11 (io), 13 I/O12 A12 (io), 14 I/O13 A13 (io), 15 I/O14 A14 (io), 16 I/O15 A15 (io), 17 VCC (power), 18 NC, 19 GND (power), 20 I/O16 B15 (io), 21 I/O17 B14 (io), 22 I/O18 B13 (io), 23 I/O19 B12 (io), 24 I/O20 B11 (io), 25 I/O21 B10 (io), 26 I/O22 B9 (io), 27 I/O23 B8 (io), 28 TMS (in), 29 CLK1/IN1 (in), 30 NC, 31 GND (power), 32 TDO (out), 33 I/O24 B0 (io), 34 I/O25 B1 (io), 35 I/O26 B2 (io), 36 I/O27 B3 (io), 37 I/O28 B4 (io), 38 I/O29 B5 (io), 39 I/O30 B6 (io), 40 I/O31 B7 (io), 41 VCC (power), 42 NC, 43 GND (power), 44 I/O0 A7 (io), 45 I/O1 A6 (io), 46 I/O2 A5 (io), 47 I/O3 A4 (io), 48 I/O4 A3 (io)

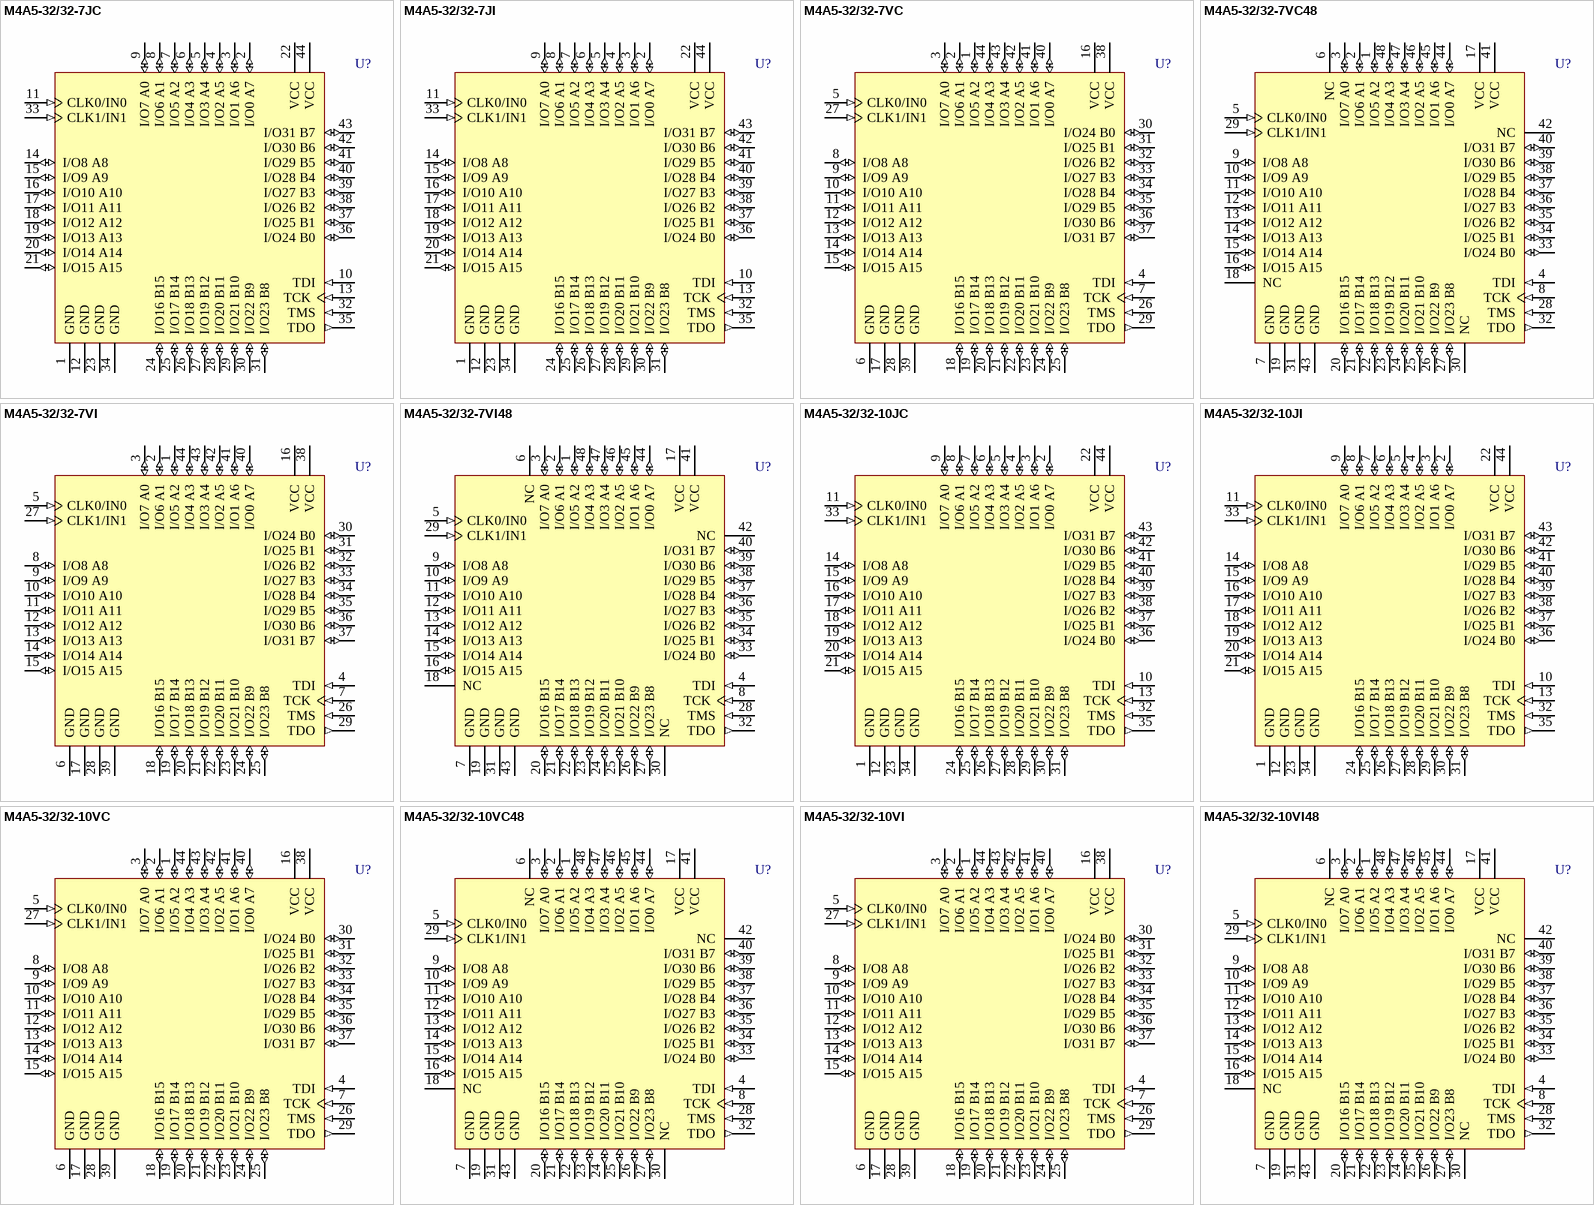
[diagram p108: symbols M4A5-32/32-7JC to M4A5-32/32-10VI48]

## M4A5-32/32-7JC
designator U?
High-Performance EE CMOS In-System Programmable Logic; Published: 17-Jul-2002; LatestRevisionDate: 13-Apr-2006; LatestRevisionNote: IPC-7351 Footprint Added.; DatasheetVersion: Feb-2001; PackageVersion: pkg_32, Aug-2005; PackageReference: PLCC44; Publisher: Altium Limited; PackageDescription: 44-Pin Leaded Chip Carrier 1.27 mm Pitch; Code_IPC: PLCC-44; ComponentLink1Description: Manufacturer Link; ComponentLink1URL: http://www.latticesemi.com/products/mature/index.cfm; ComponentLink2Description: Datasheet; ComponentLink2URL: http://www.latticesemi.com/account/_download.cfm?AMID=1344
footprint PLCC44_N (Leaded Chip Carrier, 44-Leads, Body 16.6x16.6mm, Pitch 1.27mm, IPC Medium Density)
footprint PLCC44_L (Leaded Chip Carrier, 44-Leads, Body 16.6x16.6mm, Pitch 1.27mm, IPC High Density)
footprint PLCC44_M (Leaded Chip Carrier, 44-Leads, Body 16.6x16.6mm, Pitch 1.27mm, IPC Low Density)
3D model M4A5-PLCC44 (44-Pin Leaded Chip Carrier 1.27 mm Pitch)
pins: 1 GND (power), 2 I/O0 A7 (io), 3 I/O1 A6 (io), 4 I/O2 A5 (io), 5 I/O3 A4 (io), 6 I/O4 A3 (io), 7 I/O5 A2 (io), 8 I/O6 A1 (io), 9 I/O7 A0 (io), 10 TDI (in), 11 CLK0/IN0 (in), 12 GND (power), 13 TCK (in), 14 I/O8 A8 (io), 15 I/O9 A9 (io), 16 I/O10 A10 (io), 17 I/O11 A11 (io), 18 I/O12 A12 (io), 19 I/O13 A13 (io), 20 I/O14 A14 (io), 21 I/O15 A15 (io), 22 VCC (power), 23 GND (power), 24 I/O16 B15 (io), 25 I/O17 B14 (io), 26 I/O18 B13 (io), 27 I/O19 B12 (io), 28 I/O20 B11 (io), 29 I/O21 B10 (io), 30 I/O22 B9 (io), 31 I/O23 B8 (io), 32 TMS (in), 33 CLK1/IN1 (in), 34 GND (power), 35 TDO (out), 36 I/O24 B0 (io), 37 I/O25 B1 (io), 38 I/O26 B2 (io), 39 I/O27 B3 (io), 40 I/O28 B4 (io), 41 I/O29 B5 (io), 42 I/O30 B6 (io), 43 I/O31 B7 (io), 44 VCC (power)

## M4A5-32/32-7JI
designator U?
High-Performance EE CMOS In-System Programmable Logic; Published: 17-Jul-2002; LatestRevisionDate: 13-Apr-2006; LatestRevisionNote: IPC-7351 Footprint Added.; DatasheetVersion: Feb-2001; PackageVersion: pkg_32, Aug-2005; PackageReference: PLCC44; Publisher: Altium Limited; PackageDescription: 44-Pin Leaded Chip Carrier 1.27 mm Pitch; Code_IPC: PLCC-44; ComponentLink1Description: Manufacturer Link; ComponentLink1URL: http://www.latticesemi.com/products/mature/index.cfm; ComponentLink2Description: Datasheet; ComponentLink2URL: http://www.latticesemi.com/account/_download.cfm?AMID=1344
footprint PLCC44_N (Leaded Chip Carrier, 44-Leads, Body 16.6x16.6mm, Pitch 1.27mm, IPC Medium Density)
footprint PLCC44_L (Leaded Chip Carrier, 44-Leads, Body 16.6x16.6mm, Pitch 1.27mm, IPC High Density)
footprint PLCC44_M (Leaded Chip Carrier, 44-Leads, Body 16.6x16.6mm, Pitch 1.27mm, IPC Low Density)
3D model M4A5-PLCC44 (44-Pin Leaded Chip Carrier 1.27 mm Pitch)
pins: 1 GND (power), 2 I/O0 A7 (io), 3 I/O1 A6 (io), 4 I/O2 A5 (io), 5 I/O3 A4 (io), 6 I/O4 A3 (io), 7 I/O5 A2 (io), 8 I/O6 A1 (io), 9 I/O7 A0 (io), 10 TDI (in), 11 CLK0/IN0 (in), 12 GND (power), 13 TCK (in), 14 I/O8 A8 (io), 15 I/O9 A9 (io), 16 I/O10 A10 (io), 17 I/O11 A11 (io), 18 I/O12 A12 (io), 19 I/O13 A13 (io), 20 I/O14 A14 (io), 21 I/O15 A15 (io), 22 VCC (power), 23 GND (power), 24 I/O16 B15 (io), 25 I/O17 B14 (io), 26 I/O18 B13 (io), 27 I/O19 B12 (io), 28 I/O20 B11 (io), 29 I/O21 B10 (io), 30 I/O22 B9 (io), 31 I/O23 B8 (io), 32 TMS (in), 33 CLK1/IN1 (in), 34 GND (power), 35 TDO (out), 36 I/O24 B0 (io), 37 I/O25 B1 (io), 38 I/O26 B2 (io), 39 I/O27 B3 (io), 40 I/O28 B4 (io), 41 I/O29 B5 (io), 42 I/O30 B6 (io), 43 I/O31 B7 (io), 44 VCC (power)

## M4A5-32/32-7VC
designator U?
High-Performance EE CMOS In-System Programmable Logic; Published: 17-Jul-2002; LatestRevisionDate: 13-Apr-2006; LatestRevisionNote: IPC-7351 Footprint Added.; DatasheetVersion: Feb-2001; PackageVersion: pkg_32, Aug-2005; PackageReference: TQFP44; Publisher: Altium Limited; PackageDescription: 44-Pin Thin Quad Flat Pack 0.8 mm Pitch; ComponentLink1Description: Manufacturer Link; ComponentLink1URL: http://www.latticesemi.com/products/mature/index.cfm; ComponentLink2Description: Datasheet; ComponentLink2URL: http://www.latticesemi.com/account/_download.cfm?AMID=1344
footprint TQFP44_N (Thin QFP, 44-Leads, Body 10x10mm, Pitch 0.8mm, IPC Medium Density)
footprint TQFP44_L (Thin QFP, 44-Leads, Body 10x10mm, Pitch 0.8mm, IPC High Density)
footprint TQFP44_M (Thin QFP, 44-Leads, Body 10x10mm, Pitch 0.8mm, IPC Low Density)
3D model M4A5-TQFP44 (44-Pin Thin Quad Flat Pack 0.8 mm Pitch)
pins: 1 I/O5 A2 (io), 2 I/O6 A1 (io), 3 I/O7 A0 (io), 4 TDI (in), 5 CLK0/IN0 (in), 6 GND (power), 7 TCK (in), 8 I/O8 A8 (io), 9 I/O9 A9 (io), 10 I/O10 A10 (io), 11 I/O11 A11 (io), 12 I/O12 A12 (io), 13 I/O13 A13 (io), 14 I/O14 A14 (io), 15 I/O15 A15 (io), 16 VCC (power), 17 GND (power), 18 I/O16 B15 (io), 19 I/O17 B14 (io), 20 I/O18 B13 (io), 21 I/O19 B12 (io), 22 I/O20 B11 (io), 23 I/O21 B10 (io), 24 I/O22 B9 (io), 25 I/O23 B8 (io), 26 TMS (in), 27 CLK1/IN1 (in), 28 GND (power), 29 TDO (out), 30 I/O24 B0 (io), 31 I/O25 B1 (io), 32 I/O26 B2 (io), 33 I/O27 B3 (io), 34 I/O28 B4 (io), 35 I/O29 B5 (io), 36 I/O30 B6 (io), 37 I/O31 B7 (io), 38 VCC (power), 39 GND (power), 40 I/O0 A7 (io), 41 I/O1 A6 (io), 42 I/O2 A5 (io), 43 I/O3 A4 (io), 44 I/O4 A3 (io)

## M4A5-32/32-7VC48
designator U?
High-Performance EE CMOS In-System Programmable Logic; Published: 17-Jul-2002; LatestRevisionDate: 13-Apr-2006; LatestRevisionNote: IPC-7351 Footprint Added.; DatasheetVersion: Feb-2001; PackageVersion: pkg_32, Aug-2005; PackageReference: TQFP48; Publisher: Altium Limited; PackageDescription: 48-Pin Thin Quad Flat Pack 0.5 mm Pitch; ComponentLink1Description: Manufacturer Link; ComponentLink1URL: http://www.latticesemi.com/products/mature/index.cfm; ComponentLink2Description: Datasheet; ComponentLink2URL: http://www.latticesemi.com/account/_download.cfm?AMID=1344
footprint TQFP48_N (Thin QFP, 48-Leads, Body 7x7mm, Pitch 0.5mm, IPC Medium Density)
footprint TQFP48_L (Thin QFP, 48-Leads, Body 7x7mm, Pitch 0.5mm, IPC High Density)
footprint TQFP48_M (Thin QFP, 48-Leads, Body 7x7mm, Pitch 0.5mm, IPC Low Density)
3D model M4A5-TQFP48 (48-Pin Thin Quad Flat Pack 0.5 mm Pitch)
pins: 1 I/O5 A2 (io), 2 I/O6 A1 (io), 3 I/O7 A0 (io), 4 TDI (in), 5 CLK0/IN0 (in), 6 NC, 7 GND (power), 8 TCK (in), 9 I/O8 A8 (io), 10 I/O9 A9 (io), 11 I/O10 A10 (io), 12 I/O11 A11 (io), 13 I/O12 A12 (io), 14 I/O13 A13 (io), 15 I/O14 A14 (io), 16 I/O15 A15 (io), 17 VCC (power), 18 NC, 19 GND (power), 20 I/O16 B15 (io), 21 I/O17 B14 (io), 22 I/O18 B13 (io), 23 I/O19 B12 (io), 24 I/O20 B11 (io), 25 I/O21 B10 (io), 26 I/O22 B9 (io), 27 I/O23 B8 (io), 28 TMS (in), 29 CLK1/IN1 (in), 30 NC, 31 GND (power), 32 TDO (out), 33 I/O24 B0 (io), 34 I/O25 B1 (io), 35 I/O26 B2 (io), 36 I/O27 B3 (io), 37 I/O28 B4 (io), 38 I/O29 B5 (io), 39 I/O30 B6 (io), 40 I/O31 B7 (io), 41 VCC (power), 42 NC, 43 GND (power), 44 I/O0 A7 (io), 45 I/O1 A6 (io), 46 I/O2 A5 (io), 47 I/O3 A4 (io), 48 I/O4 A3 (io)

## M4A5-32/32-7VI
designator U?
High-Performance EE CMOS In-System Programmable Logic; Published: 17-Jul-2002; LatestRevisionDate: 13-Apr-2006; LatestRevisionNote: IPC-7351 Footprint Added.; DatasheetVersion: Feb-2001; PackageVersion: pkg_32, Aug-2005; PackageReference: TQFP44; Publisher: Altium Limited; PackageDescription: 44-Pin Thin Quad Flat Pack 0.8 mm Pitch; ComponentLink1Description: Manufacturer Link; ComponentLink1URL: http://www.latticesemi.com/products/mature/index.cfm; ComponentLink2Description: Datasheet; ComponentLink2URL: http://www.latticesemi.com/account/_download.cfm?AMID=1344
footprint TQFP44_N (Thin QFP, 44-Leads, Body 10x10mm, Pitch 0.8mm, IPC Medium Density)
footprint TQFP44_L (Thin QFP, 44-Leads, Body 10x10mm, Pitch 0.8mm, IPC High Density)
footprint TQFP44_M (Thin QFP, 44-Leads, Body 10x10mm, Pitch 0.8mm, IPC Low Density)
3D model M4A5-TQFP44 (44-Pin Thin Quad Flat Pack 0.8 mm Pitch)
pins: 1 I/O5 A2 (io), 2 I/O6 A1 (io), 3 I/O7 A0 (io), 4 TDI (in), 5 CLK0/IN0 (in), 6 GND (power), 7 TCK (in), 8 I/O8 A8 (io), 9 I/O9 A9 (io), 10 I/O10 A10 (io), 11 I/O11 A11 (io), 12 I/O12 A12 (io), 13 I/O13 A13 (io), 14 I/O14 A14 (io), 15 I/O15 A15 (io), 16 VCC (power), 17 GND (power), 18 I/O16 B15 (io), 19 I/O17 B14 (io), 20 I/O18 B13 (io), 21 I/O19 B12 (io), 22 I/O20 B11 (io), 23 I/O21 B10 (io), 24 I/O22 B9 (io), 25 I/O23 B8 (io), 26 TMS (in), 27 CLK1/IN1 (in), 28 GND (power), 29 TDO (out), 30 I/O24 B0 (io), 31 I/O25 B1 (io), 32 I/O26 B2 (io), 33 I/O27 B3 (io), 34 I/O28 B4 (io), 35 I/O29 B5 (io), 36 I/O30 B6 (io), 37 I/O31 B7 (io), 38 VCC (power), 39 GND (power), 40 I/O0 A7 (io), 41 I/O1 A6 (io), 42 I/O2 A5 (io), 43 I/O3 A4 (io), 44 I/O4 A3 (io)

## M4A5-32/32-7VI48
designator U?
High-Performance EE CMOS In-System Programmable Logic; Published: 17-Jul-2002; LatestRevisionDate: 13-Apr-2006; LatestRevisionNote: IPC-7351 Footprint Added.; DatasheetVersion: Feb-2001; PackageVersion: pkg_32, Aug-2005; PackageReference: TQFP48; Publisher: Altium Limited; PackageDescription: 48-Pin Thin Quad Flat Pack 0.5 mm Pitch; ComponentLink1Description: Manufacturer Link; ComponentLink1URL: http://www.latticesemi.com/products/mature/index.cfm; ComponentLink2Description: Datasheet; ComponentLink2URL: http://www.latticesemi.com/account/_download.cfm?AMID=1344
footprint TQFP48_N (Thin QFP, 48-Leads, Body 7x7mm, Pitch 0.5mm, IPC Medium Density)
footprint TQFP48_L (Thin QFP, 48-Leads, Body 7x7mm, Pitch 0.5mm, IPC High Density)
footprint TQFP48_M (Thin QFP, 48-Leads, Body 7x7mm, Pitch 0.5mm, IPC Low Density)
3D model M4A5-TQFP48 (48-Pin Thin Quad Flat Pack 0.5 mm Pitch)
pins: 1 I/O5 A2 (io), 2 I/O6 A1 (io), 3 I/O7 A0 (io), 4 TDI (in), 5 CLK0/IN0 (in), 6 NC, 7 GND (power), 8 TCK (in), 9 I/O8 A8 (io), 10 I/O9 A9 (io), 11 I/O10 A10 (io), 12 I/O11 A11 (io), 13 I/O12 A12 (io), 14 I/O13 A13 (io), 15 I/O14 A14 (io), 16 I/O15 A15 (io), 17 VCC (power), 18 NC, 19 GND (power), 20 I/O16 B15 (io), 21 I/O17 B14 (io), 22 I/O18 B13 (io), 23 I/O19 B12 (io), 24 I/O20 B11 (io), 25 I/O21 B10 (io), 26 I/O22 B9 (io), 27 I/O23 B8 (io), 28 TMS (in), 29 CLK1/IN1 (in), 30 NC, 31 GND (power), 32 TDO (out), 33 I/O24 B0 (io), 34 I/O25 B1 (io), 35 I/O26 B2 (io), 36 I/O27 B3 (io), 37 I/O28 B4 (io), 38 I/O29 B5 (io), 39 I/O30 B6 (io), 40 I/O31 B7 (io), 41 VCC (power), 42 NC, 43 GND (power), 44 I/O0 A7 (io), 45 I/O1 A6 (io), 46 I/O2 A5 (io), 47 I/O3 A4 (io), 48 I/O4 A3 (io)

## M4A5-32/32-10JC
designator U?
High-Performance EE CMOS In-System Programmable Logic; Published: 17-Jul-2002; LatestRevisionDate: 13-Apr-2006; LatestRevisionNote: IPC-7351 Footprint Added.; DatasheetVersion: Feb-2001; PackageVersion: pkg_32, Aug-2005; PackageReference: PLCC44; Publisher: Altium Limited; PackageDescription: 44-Pin Leaded Chip Carrier 1.27 mm Pitch; Code_IPC: PLCC-44; ComponentLink1Description: Manufacturer Link; ComponentLink1URL: http://www.latticesemi.com/products/mature/index.cfm; ComponentLink2Description: Datasheet; ComponentLink2URL: http://www.latticesemi.com/account/_download.cfm?AMID=1344
footprint PLCC44_N (Leaded Chip Carrier, 44-Leads, Body 16.6x16.6mm, Pitch 1.27mm, IPC Medium Density)
footprint PLCC44_L (Leaded Chip Carrier, 44-Leads, Body 16.6x16.6mm, Pitch 1.27mm, IPC High Density)
footprint PLCC44_M (Leaded Chip Carrier, 44-Leads, Body 16.6x16.6mm, Pitch 1.27mm, IPC Low Density)
3D model M4A5-PLCC44 (44-Pin Leaded Chip Carrier 1.27 mm Pitch)
pins: 1 GND (power), 2 I/O0 A7 (io), 3 I/O1 A6 (io), 4 I/O2 A5 (io), 5 I/O3 A4 (io), 6 I/O4 A3 (io), 7 I/O5 A2 (io), 8 I/O6 A1 (io), 9 I/O7 A0 (io), 10 TDI (in), 11 CLK0/IN0 (in), 12 GND (power), 13 TCK (in), 14 I/O8 A8 (io), 15 I/O9 A9 (io), 16 I/O10 A10 (io), 17 I/O11 A11 (io), 18 I/O12 A12 (io), 19 I/O13 A13 (io), 20 I/O14 A14 (io), 21 I/O15 A15 (io), 22 VCC (power), 23 GND (power), 24 I/O16 B15 (io), 25 I/O17 B14 (io), 26 I/O18 B13 (io), 27 I/O19 B12 (io), 28 I/O20 B11 (io), 29 I/O21 B10 (io), 30 I/O22 B9 (io), 31 I/O23 B8 (io), 32 TMS (in), 33 CLK1/IN1 (in), 34 GND (power), 35 TDO (out), 36 I/O24 B0 (io), 37 I/O25 B1 (io), 38 I/O26 B2 (io), 39 I/O27 B3 (io), 40 I/O28 B4 (io), 41 I/O29 B5 (io), 42 I/O30 B6 (io), 43 I/O31 B7 (io), 44 VCC (power)

## M4A5-32/32-10JI
designator U?
High-Performance EE CMOS In-System Programmable Logic; Published: 17-Jul-2002; LatestRevisionDate: 13-Apr-2006; LatestRevisionNote: IPC-7351 Footprint Added.; DatasheetVersion: Feb-2001; PackageVersion: pkg_32, Aug-2005; PackageReference: PLCC44; Publisher: Altium Limited; PackageDescription: 44-Pin Leaded Chip Carrier 1.27 mm Pitch; Code_IPC: PLCC-44; ComponentLink1Description: Manufacturer Link; ComponentLink1URL: http://www.latticesemi.com/products/mature/index.cfm; ComponentLink2Description: Datasheet; ComponentLink2URL: http://www.latticesemi.com/account/_download.cfm?AMID=1344
footprint PLCC44_N (Leaded Chip Carrier, 44-Leads, Body 16.6x16.6mm, Pitch 1.27mm, IPC Medium Density)
footprint PLCC44_L (Leaded Chip Carrier, 44-Leads, Body 16.6x16.6mm, Pitch 1.27mm, IPC High Density)
footprint PLCC44_M (Leaded Chip Carrier, 44-Leads, Body 16.6x16.6mm, Pitch 1.27mm, IPC Low Density)
3D model M4A5-PLCC44 (44-Pin Leaded Chip Carrier 1.27 mm Pitch)
pins: 1 GND (power), 2 I/O0 A7 (io), 3 I/O1 A6 (io), 4 I/O2 A5 (io), 5 I/O3 A4 (io), 6 I/O4 A3 (io), 7 I/O5 A2 (io), 8 I/O6 A1 (io), 9 I/O7 A0 (io), 10 TDI (in), 11 CLK0/IN0 (in), 12 GND (power), 13 TCK (in), 14 I/O8 A8 (io), 15 I/O9 A9 (io), 16 I/O10 A10 (io), 17 I/O11 A11 (io), 18 I/O12 A12 (io), 19 I/O13 A13 (io), 20 I/O14 A14 (io), 21 I/O15 A15 (io), 22 VCC (power), 23 GND (power), 24 I/O16 B15 (io), 25 I/O17 B14 (io), 26 I/O18 B13 (io), 27 I/O19 B12 (io), 28 I/O20 B11 (io), 29 I/O21 B10 (io), 30 I/O22 B9 (io), 31 I/O23 B8 (io), 32 TMS (in), 33 CLK1/IN1 (in), 34 GND (power), 35 TDO (out), 36 I/O24 B0 (io), 37 I/O25 B1 (io), 38 I/O26 B2 (io), 39 I/O27 B3 (io), 40 I/O28 B4 (io), 41 I/O29 B5 (io), 42 I/O30 B6 (io), 43 I/O31 B7 (io), 44 VCC (power)

## M4A5-32/32-10VC
designator U?
High-Performance EE CMOS In-System Programmable Logic; Published: 17-Jul-2002; LatestRevisionDate: 13-Apr-2006; LatestRevisionNote: IPC-7351 Footprint Added.; DatasheetVersion: Feb-2001; PackageVersion: pkg_32, Aug-2005; PackageReference: TQFP44; Publisher: Altium Limited; PackageDescription: 44-Pin Thin Quad Flat Pack 0.8 mm Pitch; ComponentLink1Description: Manufacturer Link; ComponentLink1URL: http://www.latticesemi.com/products/mature/index.cfm; ComponentLink2Description: Datasheet; ComponentLink2URL: http://www.latticesemi.com/account/_download.cfm?AMID=1344
footprint TQFP44_N (Thin QFP, 44-Leads, Body 10x10mm, Pitch 0.8mm, IPC Medium Density)
footprint TQFP44_L (Thin QFP, 44-Leads, Body 10x10mm, Pitch 0.8mm, IPC High Density)
footprint TQFP44_M (Thin QFP, 44-Leads, Body 10x10mm, Pitch 0.8mm, IPC Low Density)
3D model M4A5-TQFP44 (44-Pin Thin Quad Flat Pack 0.8 mm Pitch)
pins: 1 I/O5 A2 (io), 2 I/O6 A1 (io), 3 I/O7 A0 (io), 4 TDI (in), 5 CLK0/IN0 (in), 6 GND (power), 7 TCK (in), 8 I/O8 A8 (io), 9 I/O9 A9 (io), 10 I/O10 A10 (io), 11 I/O11 A11 (io), 12 I/O12 A12 (io), 13 I/O13 A13 (io), 14 I/O14 A14 (io), 15 I/O15 A15 (io), 16 VCC (power), 17 GND (power), 18 I/O16 B15 (io), 19 I/O17 B14 (io), 20 I/O18 B13 (io), 21 I/O19 B12 (io), 22 I/O20 B11 (io), 23 I/O21 B10 (io), 24 I/O22 B9 (io), 25 I/O23 B8 (io), 26 TMS (in), 27 CLK1/IN1 (in), 28 GND (power), 29 TDO (out), 30 I/O24 B0 (io), 31 I/O25 B1 (io), 32 I/O26 B2 (io), 33 I/O27 B3 (io), 34 I/O28 B4 (io), 35 I/O29 B5 (io), 36 I/O30 B6 (io), 37 I/O31 B7 (io), 38 VCC (power), 39 GND (power), 40 I/O0 A7 (io), 41 I/O1 A6 (io), 42 I/O2 A5 (io), 43 I/O3 A4 (io), 44 I/O4 A3 (io)

## M4A5-32/32-10VC48
designator U?
High-Performance EE CMOS In-System Programmable Logic; Published: 17-Jul-2002; LatestRevisionDate: 13-Apr-2006; LatestRevisionNote: IPC-7351 Footprint Added.; DatasheetVersion: Feb-2001; PackageVersion: pkg_32, Aug-2005; PackageReference: TQFP48; Publisher: Altium Limited; PackageDescription: 48-Pin Thin Quad Flat Pack 0.5 mm Pitch; ComponentLink1Description: Manufacturer Link; ComponentLink1URL: http://www.latticesemi.com/products/mature/index.cfm; ComponentLink2Description: Datasheet; ComponentLink2URL: http://www.latticesemi.com/account/_download.cfm?AMID=1344
footprint TQFP48_N (Thin QFP, 48-Leads, Body 7x7mm, Pitch 0.5mm, IPC Medium Density)
footprint TQFP48_L (Thin QFP, 48-Leads, Body 7x7mm, Pitch 0.5mm, IPC High Density)
footprint TQFP48_M (Thin QFP, 48-Leads, Body 7x7mm, Pitch 0.5mm, IPC Low Density)
3D model M4A5-TQFP48 (48-Pin Thin Quad Flat Pack 0.5 mm Pitch)
pins: 1 I/O5 A2 (io), 2 I/O6 A1 (io), 3 I/O7 A0 (io), 4 TDI (in), 5 CLK0/IN0 (in), 6 NC, 7 GND (power), 8 TCK (in), 9 I/O8 A8 (io), 10 I/O9 A9 (io), 11 I/O10 A10 (io), 12 I/O11 A11 (io), 13 I/O12 A12 (io), 14 I/O13 A13 (io), 15 I/O14 A14 (io), 16 I/O15 A15 (io), 17 VCC (power), 18 NC, 19 GND (power), 20 I/O16 B15 (io), 21 I/O17 B14 (io), 22 I/O18 B13 (io), 23 I/O19 B12 (io), 24 I/O20 B11 (io), 25 I/O21 B10 (io), 26 I/O22 B9 (io), 27 I/O23 B8 (io), 28 TMS (in), 29 CLK1/IN1 (in), 30 NC, 31 GND (power), 32 TDO (out), 33 I/O24 B0 (io), 34 I/O25 B1 (io), 35 I/O26 B2 (io), 36 I/O27 B3 (io), 37 I/O28 B4 (io), 38 I/O29 B5 (io), 39 I/O30 B6 (io), 40 I/O31 B7 (io), 41 VCC (power), 42 NC, 43 GND (power), 44 I/O0 A7 (io), 45 I/O1 A6 (io), 46 I/O2 A5 (io), 47 I/O3 A4 (io), 48 I/O4 A3 (io)

## M4A5-32/32-10VI
designator U?
High-Performance EE CMOS In-System Programmable Logic; Published: 17-Jul-2002; LatestRevisionDate: 13-Apr-2006; LatestRevisionNote: IPC-7351 Footprint Added.; DatasheetVersion: Feb-2001; PackageVersion: pkg_32, Aug-2005; PackageReference: TQFP44; Publisher: Altium Limited; PackageDescription: 44-Pin Thin Quad Flat Pack 0.8 mm Pitch; ComponentLink1Description: Manufacturer Link; ComponentLink1URL: http://www.latticesemi.com/products/mature/index.cfm; ComponentLink2Description: Datasheet; ComponentLink2URL: http://www.latticesemi.com/account/_download.cfm?AMID=1344
footprint TQFP44_N (Thin QFP, 44-Leads, Body 10x10mm, Pitch 0.8mm, IPC Medium Density)
footprint TQFP44_L (Thin QFP, 44-Leads, Body 10x10mm, Pitch 0.8mm, IPC High Density)
footprint TQFP44_M (Thin QFP, 44-Leads, Body 10x10mm, Pitch 0.8mm, IPC Low Density)
3D model M4A5-TQFP44 (44-Pin Thin Quad Flat Pack 0.8 mm Pitch)
pins: 1 I/O5 A2 (io), 2 I/O6 A1 (io), 3 I/O7 A0 (io), 4 TDI (in), 5 CLK0/IN0 (in), 6 GND (power), 7 TCK (in), 8 I/O8 A8 (io), 9 I/O9 A9 (io), 10 I/O10 A10 (io), 11 I/O11 A11 (io), 12 I/O12 A12 (io), 13 I/O13 A13 (io), 14 I/O14 A14 (io), 15 I/O15 A15 (io), 16 VCC (power), 17 GND (power), 18 I/O16 B15 (io), 19 I/O17 B14 (io), 20 I/O18 B13 (io), 21 I/O19 B12 (io), 22 I/O20 B11 (io), 23 I/O21 B10 (io), 24 I/O22 B9 (io), 25 I/O23 B8 (io), 26 TMS (in), 27 CLK1/IN1 (in), 28 GND (power), 29 TDO (out), 30 I/O24 B0 (io), 31 I/O25 B1 (io), 32 I/O26 B2 (io), 33 I/O27 B3 (io), 34 I/O28 B4 (io), 35 I/O29 B5 (io), 36 I/O30 B6 (io), 37 I/O31 B7 (io), 38 VCC (power), 39 GND (power), 40 I/O0 A7 (io), 41 I/O1 A6 (io), 42 I/O2 A5 (io), 43 I/O3 A4 (io), 44 I/O4 A3 (io)

## M4A5-32/32-10VI48
designator U?
High-Performance EE CMOS In-System Programmable Logic; Published: 17-Jul-2002; LatestRevisionDate: 13-Apr-2006; LatestRevisionNote: IPC-7351 Footprint Added.; DatasheetVersion: Feb-2001; PackageVersion: pkg_32, Aug-2005; PackageReference: TQFP48; Publisher: Altium Limited; PackageDescription: 48-Pin Thin Quad Flat Pack 0.5 mm Pitch; ComponentLink1Description: Manufacturer Link; ComponentLink1URL: http://www.latticesemi.com/products/mature/index.cfm; ComponentLink2Description: Datasheet; ComponentLink2URL: http://www.latticesemi.com/account/_download.cfm?AMID=1344
footprint TQFP48_N (Thin QFP, 48-Leads, Body 7x7mm, Pitch 0.5mm, IPC Medium Density)
footprint TQFP48_L (Thin QFP, 48-Leads, Body 7x7mm, Pitch 0.5mm, IPC High Density)
footprint TQFP48_M (Thin QFP, 48-Leads, Body 7x7mm, Pitch 0.5mm, IPC Low Density)
3D model M4A5-TQFP48 (48-Pin Thin Quad Flat Pack 0.5 mm Pitch)
pins: 1 I/O5 A2 (io), 2 I/O6 A1 (io), 3 I/O7 A0 (io), 4 TDI (in), 5 CLK0/IN0 (in), 6 NC, 7 GND (power), 8 TCK (in), 9 I/O8 A8 (io), 10 I/O9 A9 (io), 11 I/O10 A10 (io), 12 I/O11 A11 (io), 13 I/O12 A12 (io), 14 I/O13 A13 (io), 15 I/O14 A14 (io), 16 I/O15 A15 (io), 17 VCC (power), 18 NC, 19 GND (power), 20 I/O16 B15 (io), 21 I/O17 B14 (io), 22 I/O18 B13 (io), 23 I/O19 B12 (io), 24 I/O20 B11 (io), 25 I/O21 B10 (io), 26 I/O22 B9 (io), 27 I/O23 B8 (io), 28 TMS (in), 29 CLK1/IN1 (in), 30 NC, 31 GND (power), 32 TDO (out), 33 I/O24 B0 (io), 34 I/O25 B1 (io), 35 I/O26 B2 (io), 36 I/O27 B3 (io), 37 I/O28 B4 (io), 38 I/O29 B5 (io), 39 I/O30 B6 (io), 40 I/O31 B7 (io), 41 VCC (power), 42 NC, 43 GND (power), 44 I/O0 A7 (io), 45 I/O1 A6 (io), 46 I/O2 A5 (io), 47 I/O3 A4 (io), 48 I/O4 A3 (io)

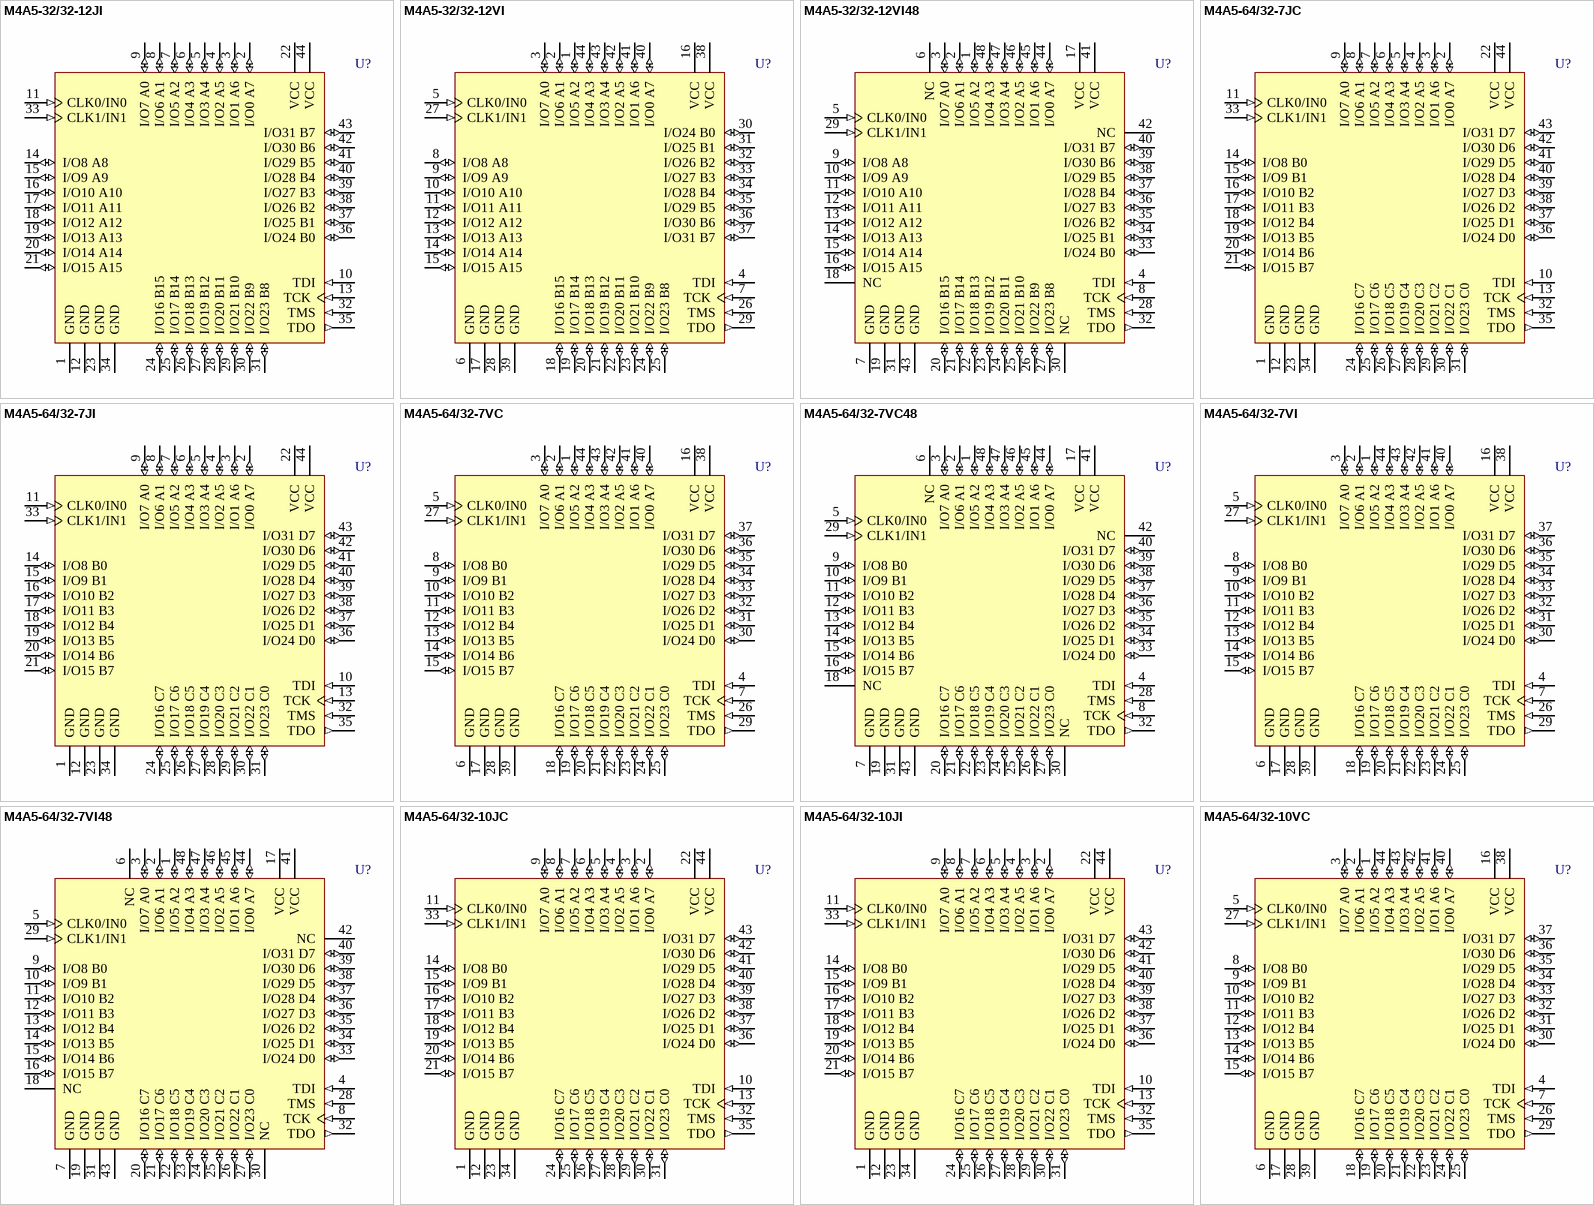
[diagram p109: symbols M4A5-32/32-12JI to M4A5-64/32-10VC]